# Altium schematic symbol library SGK_DVR_01_Library.SchLib: 230 symbols (part 1 of 3)
Pins are listed as number, name and electrical type; pins without a type are passive.

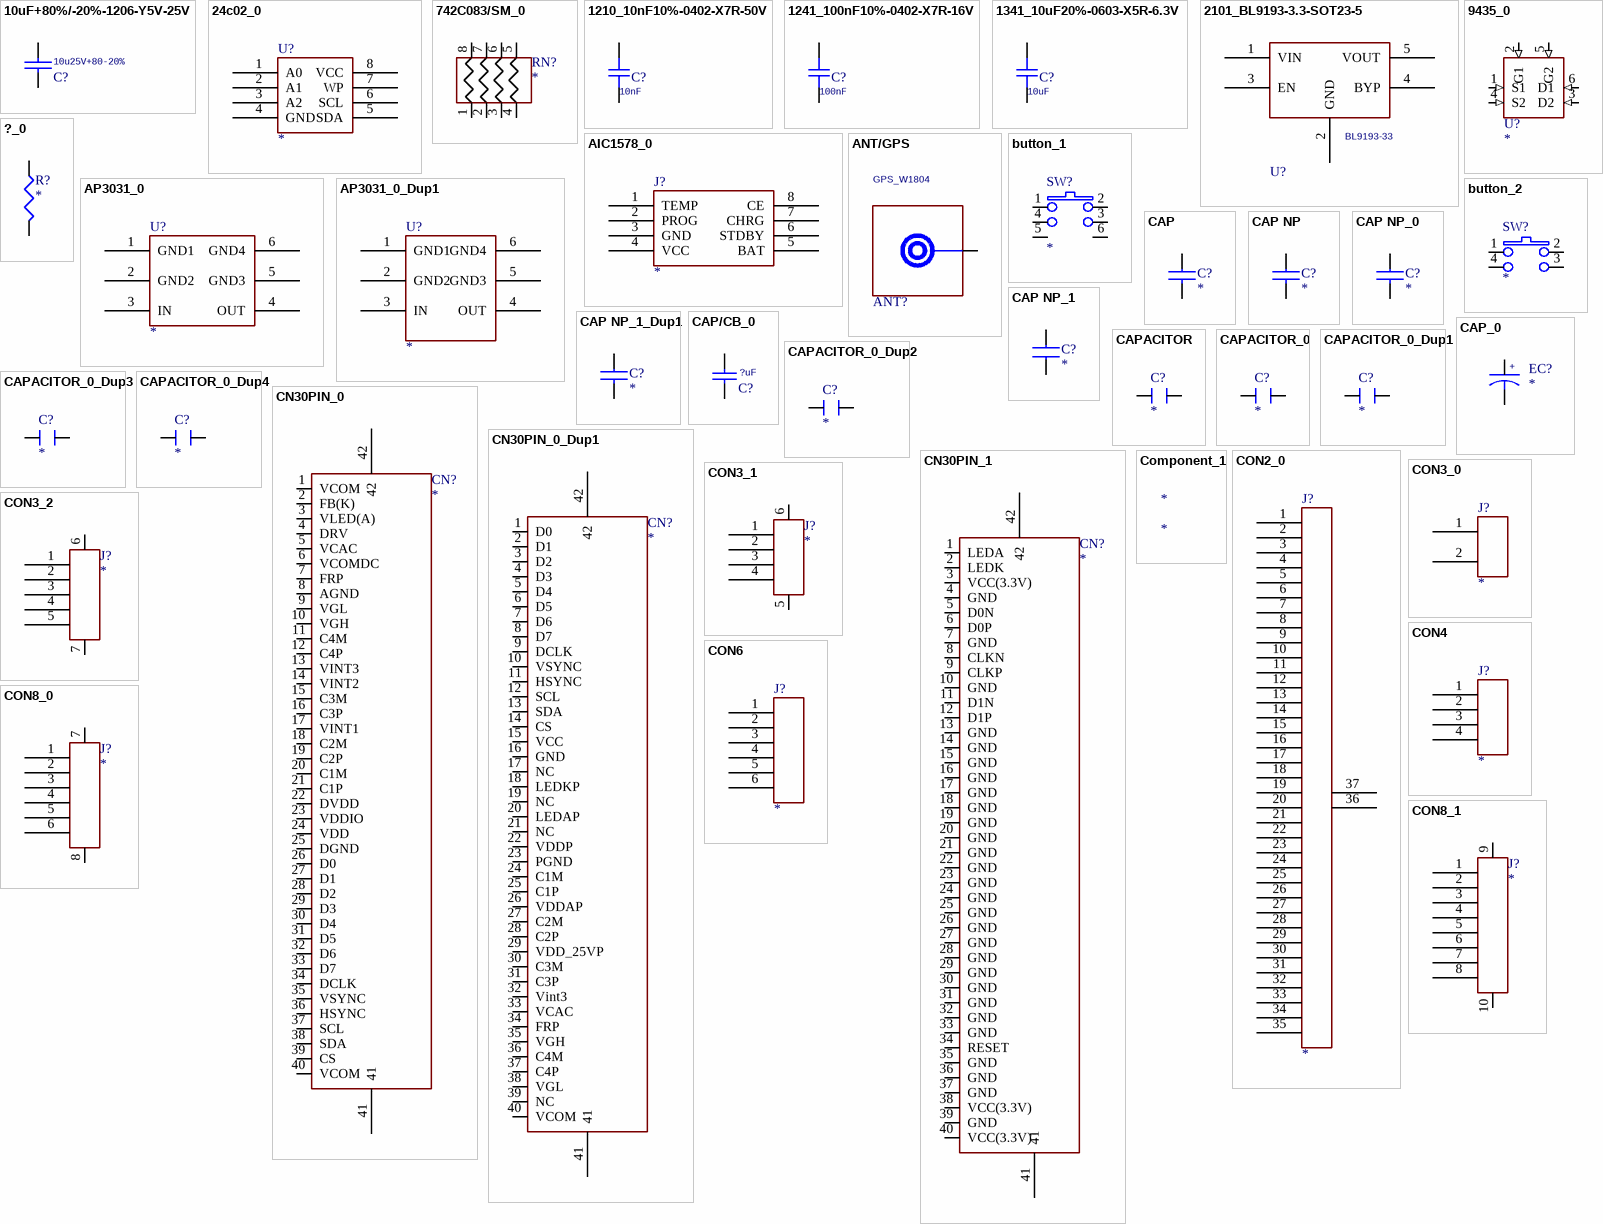
[diagram p0: symbols 10uF+80%/-20%-1206-Y5V-25V to CON8_1]

## 10uF+80%/-20%-1206-Y5V-25V
designator C?, comment 10u25V+80-20%
Part1: 电容-10uF+80%/-20%-1206-Y5V-25V; Part2: A.02.04.01.202
footprint 1206C
pins: 1, 2

## 24c02_0
designator U?
pins: 1 A0, 2 A1, 3 A2, 4 GND (power), 5 SDA, 6 SCL, 7 WP, 8 VCC (power)

## 742C083/SM_0
designator RN?
pins: 1, 2, 3, 4, 5, 6, 7, 8

## 1210_10nF10%-0402-X7R-50V
designator C?, comment 10nF
Part1: 电容-10nF±10%-0402-X7R-50V; Part2: A.01.02.01.210
footprint 0402C
pins: 1, 2

## 1241_100nF10%-0402-X7R-16V
designator C?, comment 100nF
Part1: 电容-100nF±10%-0402-X7R-16V; Part2: A.01.02.01.241
footprint 0402C
pins: 1, 2

## 1341_10uF20%-0603-X5R-6.3V
designator C?, comment 10uF
Part1: 电容-10uF±20%-0603-X5R-6.3V; Part2: A.01.02.01.341
footprint 0603C
pins: 1, 2

## 2101_BL9193-3.3-SOT23-5
designator U?, comment BL9193-33
Part1: 集成电路-BL9193-33-A-A-X-RN-3.3VLDO-200mA-(SOT23-5); Part2: A.01.08.02.101
footprint SOT23-5
pins: 1 VIN, 2 GND (power), 3 EN, 4 BYP, 5 VOUT

## 9435_0
designator U?
pins: 1 S1 (in), 2 G1 (in), 3 D2 (in), 4 S2 (in), 5 G2 (in), 6 D1 (in)

## ?_0
designator R?
footprint R0402
pins: 1, 2

## AIC1578_0
designator J?
pins: 1 TEMP, 2 PROG, 3 GND, 4 VCC, 5 BAT, 6 STDBY, 7 CHRG, 8 CE

## ANT/GPS
designator ANT?, comment GPS_W1804
footprint TP/SMD/D1.0
pins: 1

## AP3031_0
designator U?
pins: 1 GND1, 2 GND2, 3 IN, 4 OUT, 5 GND3, 6 GND4

## AP3031_0_Dup1
designator U?
pins: 1 GND1, 2 GND2, 3 IN, 4 OUT, 5 GND3, 6 GND4

## button_1
designator SW?
footprint button
pins: 1, 2, 3, 4, 5, 6

## button_2
designator SW?
footprint button
pins: 1, 2, 3, 4

## CAP
designator C?
pins: 1, 2

## CAP NP
designator C?
pins: 1, 2

## CAP NP_0
designator C?
pins: 1, 2

## CAP NP_1
designator C?
footprint C0603
pins: 1, 2

## CAP NP_1_Dup1
designator C?
pins: 1, 2

## CAP/CB_0
designator C?, comment ?uF
footprint C0402
pins: 1, 2

## CAP_0
designator EC?
pins: 1, 2
text: +

## CAPACITOR
designator C?
pins: 1, 2

## CAPACITOR_0
designator C?
pins: 1, 2

## CAPACITOR_0_Dup1
designator C?
pins: 1, 2

## CAPACITOR_0_Dup2
designator C?
pins: 1, 2

## CAPACITOR_0_Dup3
designator C?
pins: 1, 2

## CAPACITOR_0_Dup4
designator C?
pins: 1, 2

## CN30PIN_0
designator CN?
pins: 1 VCOM, 2 FB(K), 3 VLED(A), 4 DRV, 5 VCAC, 6 VCOMDC, 7 FRP, 8 AGND, 9 VGL, 10 VGH, 11 C4M, 12 C4P, 13 VINT3, 14 VINT2, 15 C3M, 16 C3P, 17 VINT1, 18 C2M, 19 C2P, 20 C1M, 21 C1P, 22 DVDD, 23 VDDIO, 24 VDD, 25 DGND, 26 D0, 27 D1, 28 D2, 29 D3, 30 D4, 31 D5, 32 D6, 33 D7, 34 DCLK, 35 VSYNC, 36 HSYNC, 37 SCL, 38 SDA, 39 CS, 40 VCOM, 41, 42

## CN30PIN_0_Dup1
designator CN?
pins: 1 D0, 2 D1, 3 D2, 4 D3, 5 D4, 6 D5, 7 D6, 8 D7, 9 DCLK, 10 VSYNC, 11 HSYNC, 12 SCL, 13 SDA, 14 CS, 15 VCC, 16 GND, 17 NC, 18 LEDKP, 19 NC, 20 LEDAP, 21 NC, 22 VDDP, 23 PGND, 24 C1M, 25 C1P, 26 VDDAP, 27 C2M, 28 C2P, 29 VDD_25VP, 30 C3M, 31 C3P, 32 Vint3, 33 VCAC, 34 FRP, 35 VGH, 36 C4M, 37 C4P, 38 VGL, 39 NC, 40 VCOM, 41, 42

## CN30PIN_1
designator CN?
pins: 1 LEDA, 2 LEDK, 3 VCC(3.3V), 4 GND, 5 D0N, 6 D0P, 7 GND, 8 CLKN, 9 CLKP, 10 GND, 11 D1N, 12 D1P, 13 GND, 14 GND, 15 GND, 16 GND, 17 GND, 18 GND, 19 GND, 20 GND, 21 GND, 22 GND, 23 GND, 24 GND, 25 GND, 26 GND, 27 GND, 28 GND, 29 GND, 30 GND, 31 GND, 32 GND, 33 GND, 34 RESET, 35 GND, 36 GND, 37 GND, 38 VCC(3.3V), 39 GND, 40 VCC(3.3V), 41, 42

## Component_1
designator *

## CON2_0
designator J?
pins: 1, 2, 3, 4, 5, 6, 7, 8, 9, 10, 11, 12, 13, 14, 15, 16, 17, 18, 19, 20, 21, 22, 23, 24, 25, 26, 27, 28, 29, 30, 31, 32, 33, 34, 35, 36, 37

## CON3_0
designator J?
pins: 1, 2

## CON3_1
designator J?
pins: 1, 2, 3, 4, 5, 6

## CON3_2
designator J?
pins: 1, 2, 3, 4, 5, 6, 7

## CON4
designator J?
pins: 1, 2, 3, 4

## CON6
designator J?
pins: 1, 2, 3, 4, 5, 6

## CON8_0
designator J?
pins: 1, 2, 3, 4, 5, 6, 7, 8

## CON8_1
designator J?
pins: 1, 2, 3, 4, 5, 6, 7, 8, 9, 10

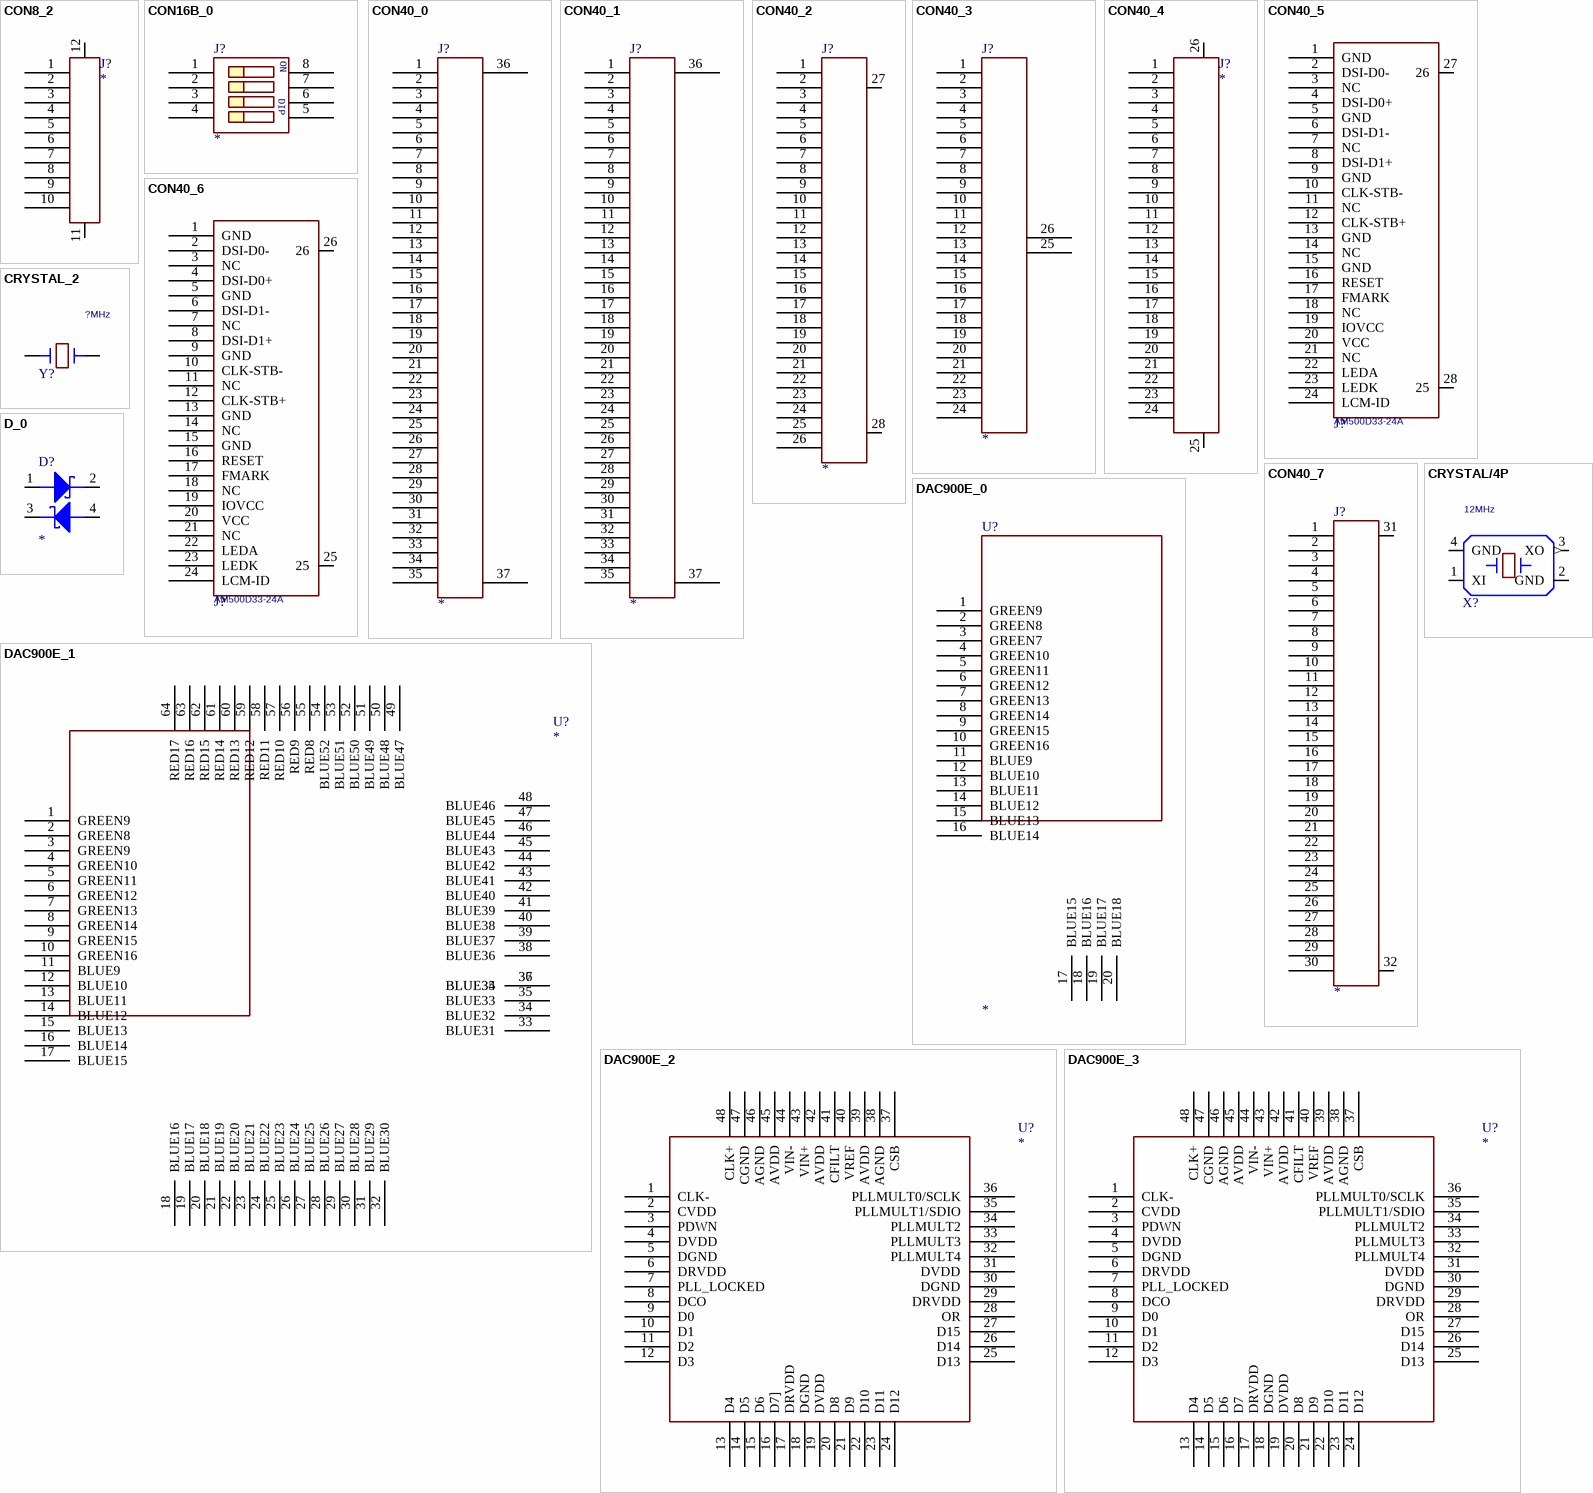
[diagram p1: symbols CON8_2 to DAC900E_3]

## CON8_2
designator J?
pins: 1, 2, 3, 4, 5, 6, 7, 8, 9, 10, 11, 12

## CON16B_0
designator J?
pins: 1, 2, 3, 4, 5, 6, 7, 8
text: ON; DIP

## CON40_0
designator J?
pins: 1, 2, 3, 4, 5, 6, 7, 8, 9, 10, 11, 12, 13, 14, 15, 16, 17, 18, 19, 20, 21, 22, 23, 24, 25, 26, 27, 28, 29, 30, 31, 32, 33, 34, 35, 36, 37

## CON40_1
designator J?
pins: 1, 2, 3, 4, 5, 6, 7, 8, 9, 10, 11, 12, 13, 14, 15, 16, 17, 18, 19, 20, 21, 22, 23, 24, 25, 26, 27, 28, 29, 30, 31, 32, 33, 34, 35, 36, 37

## CON40_2
designator J?
pins: 1, 2, 3, 4, 5, 6, 7, 8, 9, 10, 11, 12, 13, 14, 15, 16, 17, 18, 19, 20, 21, 22, 23, 24, 25, 26, 27, 28

## CON40_3
designator J?
pins: 1, 2, 3, 4, 5, 6, 7, 8, 9, 10, 11, 12, 13, 14, 15, 16, 17, 18, 19, 20, 21, 22, 23, 24, 25, 26

## CON40_4
designator J?
pins: 1, 2, 3, 4, 5, 6, 7, 8, 9, 10, 11, 12, 13, 14, 15, 16, 17, 18, 19, 20, 21, 22, 23, 24, 25, 26

## CON40_5
designator J?, comment AM500D33-24A
pins: 1 GND, 2 DSI-D0-, 3 NC, 4 DSI-D0+, 5 GND, 6 DSI-D1-, 7 NC, 8 DSI-D1+, 9 GND, 10 CLK-STB-, 11 NC, 12 CLK-STB+, 13 GND, 14 NC, 15 GND, 16 RESET, 17 FMARK, 18 NC, 19 IOVCC, 20 VCC, 21 NC, 22 LEDA, 23 LEDK, 24 LCM-ID, 27 26, 28 25

## CON40_6
designator J?, comment AM500D33-24A
pins: 1 GND, 2 DSI-D0-, 3 NC, 4 DSI-D0+, 5 GND, 6 DSI-D1-, 7 NC, 8 DSI-D1+, 9 GND, 10 CLK-STB-, 11 NC, 12 CLK-STB+, 13 GND, 14 NC, 15 GND, 16 RESET, 17 FMARK, 18 NC, 19 IOVCC, 20 VCC, 21 NC, 22 LEDA, 23 LEDK, 24 LCM-ID, 25, 26

## CON40_7
designator J?
pins: 1, 2, 3, 4, 5, 6, 7, 8, 9, 10, 11, 12, 13, 14, 15, 16, 17, 18, 19, 20, 21, 22, 23, 24, 25, 26, 27, 28, 29, 30, 31, 32

## CRYSTAL/4P
designator X?, comment 12MHz
footprint OSC4_SMD_50X32
pins: 1 XI, 2 GND, 3 XO (out), 4 GND

## CRYSTAL_2
designator Y?, comment ?MHz
footprint SMD/CRY
pins: 1, 2

## D_0
designator D?
pins: 1, 2, 3, 4

## DAC900E_0
designator U?
pins: 1 GREEN9, 2 GREEN8, 3 GREEN7, 4 GREEN10, 5 GREEN11, 6 GREEN12, 7 GREEN13, 8 GREEN14, 9 GREEN15, 10 GREEN16, 11 BLUE9, 12 BLUE10, 13 BLUE11, 14 BLUE12, 15 BLUE13, 16 BLUE14, 17 BLUE15, 18 BLUE16, 19 BLUE17, 20 BLUE18

## DAC900E_1
designator U?
pins: 1 GREEN9, 2 GREEN8, 3 GREEN9, 4 GREEN10, 5 GREEN11, 6 GREEN12, 7 GREEN13, 8 GREEN14, 9 GREEN15, 10 GREEN16, 11 BLUE9, 12 BLUE10, 13 BLUE11, 14 BLUE12, 15 BLUE13, 16 BLUE14, 17 BLUE15, 18 BLUE16, 19 BLUE17, 20 BLUE18, 21 BLUE19, 22 BLUE20, 23 BLUE21, 24 BLUE22, 25 BLUE23, 26 BLUE24, 27 BLUE25, 28 BLUE26, 29 BLUE27, 30 BLUE28, 31 BLUE29, 32 BLUE30, 33 BLUE31, 34 BLUE32, 35 BLUE33, 36 BLUE34, 37 BLUE35, 38 BLUE36, 39 BLUE37, 40 BLUE38, 41 BLUE39, 42 BLUE40, 43 BLUE41, 44 BLUE42, 45 BLUE43, 46 BLUE44, 47 BLUE45, 48 BLUE46, 49 BLUE47, 50 BLUE48, 51 BLUE49, 52 BLUE50, 53 BLUE51, 54 BLUE52, 55 RED8, 56 RED9, 57 RED10, 58 RED11, 59 RED12, 60 RED13, 61 RED14, 62 RED15, 63 RED16, 64 RED17

## DAC900E_2
designator U?
pins: 1 CLK-, 2 CVDD, 3 PDWN, 4 DVDD, 5 DGND, 6 DRVDD, 7 PLL_LOCKED, 8 DCO, 9 D0, 10 D1, 11 D2, 12 D3, 13 D4, 14 D5, 15 D6, 16 D7], 17 DRVDD, 18 DGND, 19 DVDD, 20 D8 (power), 21 D9, 22 D10, 23 D11, 24 D12, 25 D13, 26 D14 (power), 27 D15, 28 OR, 29 DRVDD, 30 DGND, 31 DVDD, 32 PLLMULT4, 33 PLLMULT3, 34 PLLMULT2, 35 PLLMULT1/SDIO, 36 PLLMULT0/SCLK, 37 CSB, 38 AGND, 39 AVDD, 40 VREF, 41 CFILT, 42 AVDD, 43 VIN+, 44 VIN-, 45 AVDD, 46 AGND, 47 CGND, 48 CLK+

## DAC900E_3
designator U?
pins: 1 CLK-, 2 CVDD, 3 PDWN, 4 DVDD, 5 DGND, 6 DRVDD, 7 PLL_LOCKED, 8 DCO, 9 D0, 10 D1, 11 D2, 12 D3, 13 D4, 14 D5, 15 D6, 16 D7, 17 DRVDD, 18 DGND, 19 DVDD, 20 D8 (power), 21 D9, 22 D10, 23 D11, 24 D12, 25 D13, 26 D14 (power), 27 D15, 28 OR, 29 DRVDD, 30 DGND, 31 DVDD, 32 PLLMULT4, 33 PLLMULT3, 34 PLLMULT2, 35 PLLMULT1/SDIO, 36 PLLMULT0/SCLK, 37 CSB, 38 AGND, 39 AVDD, 40 VREF, 41 CFILT, 42 AVDD, 43 VIN+, 44 VIN-, 45 AVDD, 46 AGND, 47 CGND, 48 CLK+

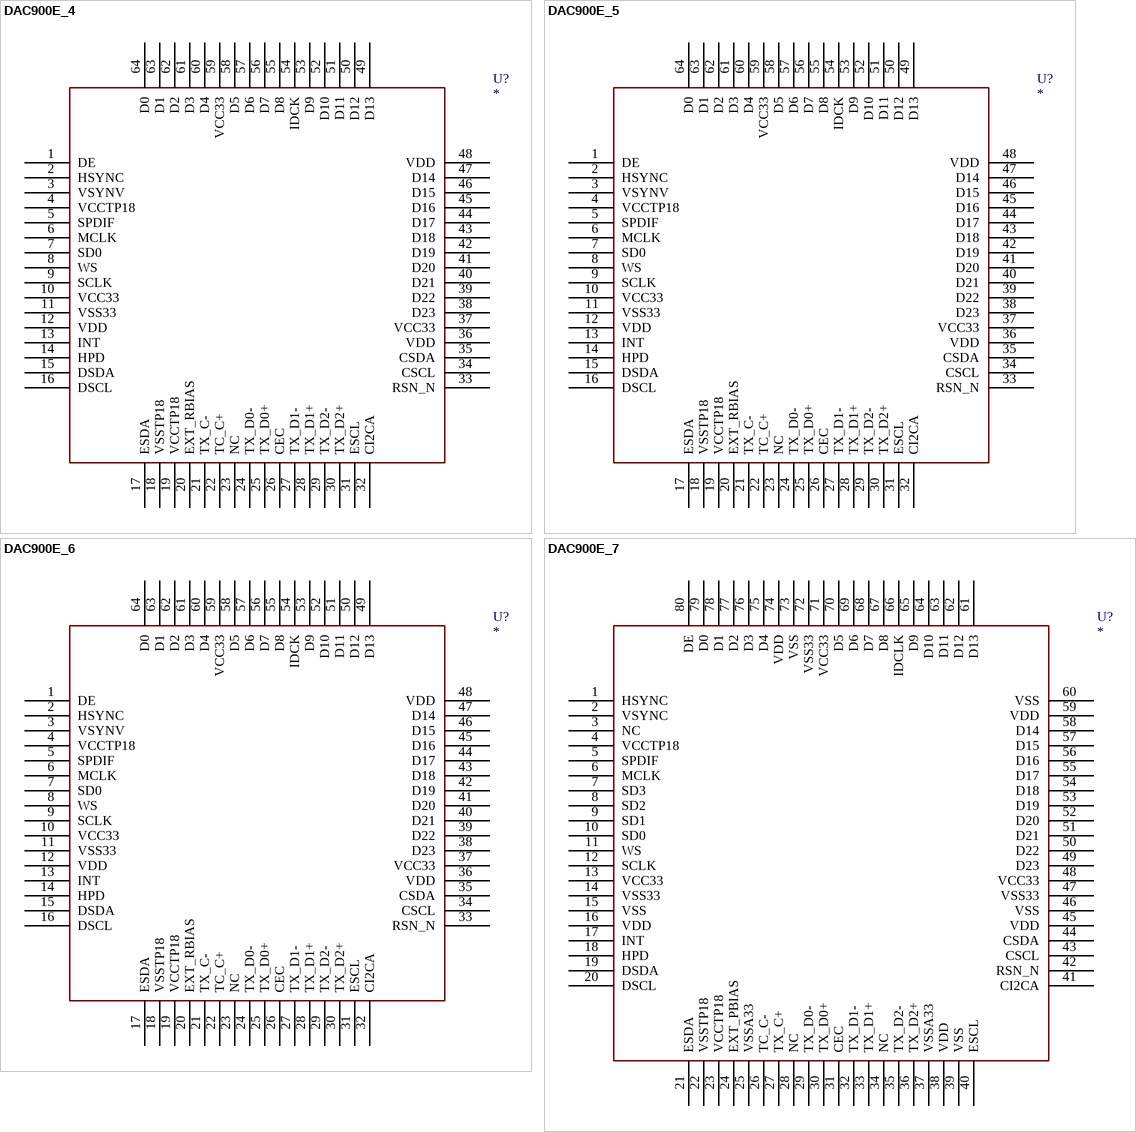
[diagram p2: symbols DAC900E_4 to DAC900E_7]

## DAC900E_4
designator U?
pins: 1 DE, 2 HSYNC, 3 VSYNV, 4 VCCTP18, 5 SPDIF, 6 MCLK, 7 SD0, 8 WS, 9 SCLK, 10 VCC33, 11 VSS33, 12 VDD, 13 INT, 14 HPD, 15 DSDA, 16 DSCL, 17 ESDA, 18 VSSTP18, 19 VCCTP18, 20 EXT_RBIAS (power), 21 TX_C-, 22 TC_C+, 23 NC, 24 TX_D0-, 25 TX_D0+, 26 CEC (power), 27 TX_D1-, 28 TX_D1+, 29 TX_D2-, 30 TX_D2+, 31 ESCL, 32 CI2CA, 33 RSN_N, 34 CSCL, 35 CSDA, 36 VDD, 37 VCC33, 38 D23, 39 D22, 40 D21, 41 D20, 42 D19, 43 D18, 44 D17, 45 D16, 46 D15, 47 D14, 48 VDD, 49 D13, 50 D12, 51 D11, 52 D10, 53 D9, 54 IDCK, 55 D8, 56 D7, 57 D6, 58 D5, 59 VCC33, 60 D4, 61 D3, 62 D2, 63 D1, 64 D0

## DAC900E_5
designator U?
pins: 1 DE, 2 HSYNC, 3 VSYNV, 4 VCCTP18, 5 SPDIF, 6 MCLK, 7 SD0, 8 WS, 9 SCLK, 10 VCC33, 11 VSS33, 12 VDD, 13 INT, 14 HPD, 15 DSDA, 16 DSCL, 17 ESDA, 18 VSSTP18, 19 VCCTP18, 20 EXT_RBIAS, 21 TX_C-, 22 TC_C+, 23 NC, 24 TX_D0-, 25 TX_D0+, 26 CEC (power), 27 TX_D1-, 28 TX_D1+, 29 TX_D2-, 30 TX_D2+, 31 ESCL, 32 CI2CA, 33 RSN_N, 34 CSCL, 35 CSDA, 36 VDD, 37 VCC33, 38 D23, 39 D22, 40 D21, 41 D20, 42 D19, 43 D18, 44 D17, 45 D16, 46 D15, 47 D14, 48 VDD, 49 D13, 50 D12, 51 D11, 52 D10, 53 D9, 54 IDCK, 55 D8, 56 D7, 57 D6, 58 D5, 59 VCC33, 60 D4, 61 D3, 62 D2, 63 D1, 64 D0

## DAC900E_6
designator U?
pins: 1 DE, 2 HSYNC, 3 VSYNV, 4 VCCTP18, 5 SPDIF, 6 MCLK, 7 SD0, 8 WS, 9 SCLK, 10 VCC33, 11 VSS33, 12 VDD, 13 INT, 14 HPD, 15 DSDA, 16 DSCL, 17 ESDA, 18 VSSTP18, 19 VCCTP18, 20 EXT_RBIAS, 21 TX_C-, 22 TC_C+, 23 NC, 24 TX_D0-, 25 TX_D0+, 26 CEC (power), 27 TX_D1-, 28 TX_D1+, 29 TX_D2-, 30 TX_D2+, 31 ESCL, 32 CI2CA, 33 RSN_N, 34 CSCL, 35 CSDA, 36 VDD, 37 VCC33, 38 D23, 39 D22, 40 D21, 41 D20, 42 D19, 43 D18, 44 D17, 45 D16, 46 D15, 47 D14, 48 VDD, 49 D13, 50 D12, 51 D11, 52 D10, 53 D9, 54 IDCK, 55 D8, 56 D7, 57 D6, 58 D5, 59 VCC33, 60 D4, 61 D3, 62 D2, 63 D1, 64 D0

## DAC900E_7
designator U?
pins: 1 HSYNC, 2 VSYNC, 3 NC, 4 VCCTP18, 5 SPDIF, 6 MCLK, 7 SD3, 8 SD2, 9 SD1, 10 SD0, 11 WS, 12 SCLK, 13 VCC33, 14 VSS33, 15 VSS, 16 VDD, 17 INT, 18 HPD, 19 DSDA, 20 DSCL, 21 ESDA, 22 VSSTP18, 23 VCCTP18, 24 EXT_PBIAS, 25 VSSA33, 26 TC_C- (power), 27 TX_C+, 28 NC, 29 TX_D0-, 30 TX_D0+, 31 CEC, 32 TX_D1-, 33 TX_D1+, 34 NC, 35 TX_D2-, 36 TX_D2+, 37 VSSA33, 38 VDD, 39 VSS, 40 ESCL, 41 CI2CA, 42 RSN_N, 43 CSCL, 44 CSDA, 45 VDD, 46 VSS, 47 VSS33, 48 VCC33, 49 D23, 50 D22, 51 D21, 52 D20, 53 D19, 54 D18, 55 D17, 56 D16, 57 D15, 58 D14, 59 VDD, 60 VSS, 61 D13, 62 D12, 63 D11, 64 D10, 65 D9, 66 IDCLK, 67 D8, 68 D7, 69 D6, 70 D5, 71 VCC33, 72 VSS33, 73 VSS, 74 VDD, 75 D4, 76 D3, 77 D2, 78 D1, 79 D0, 80 DE

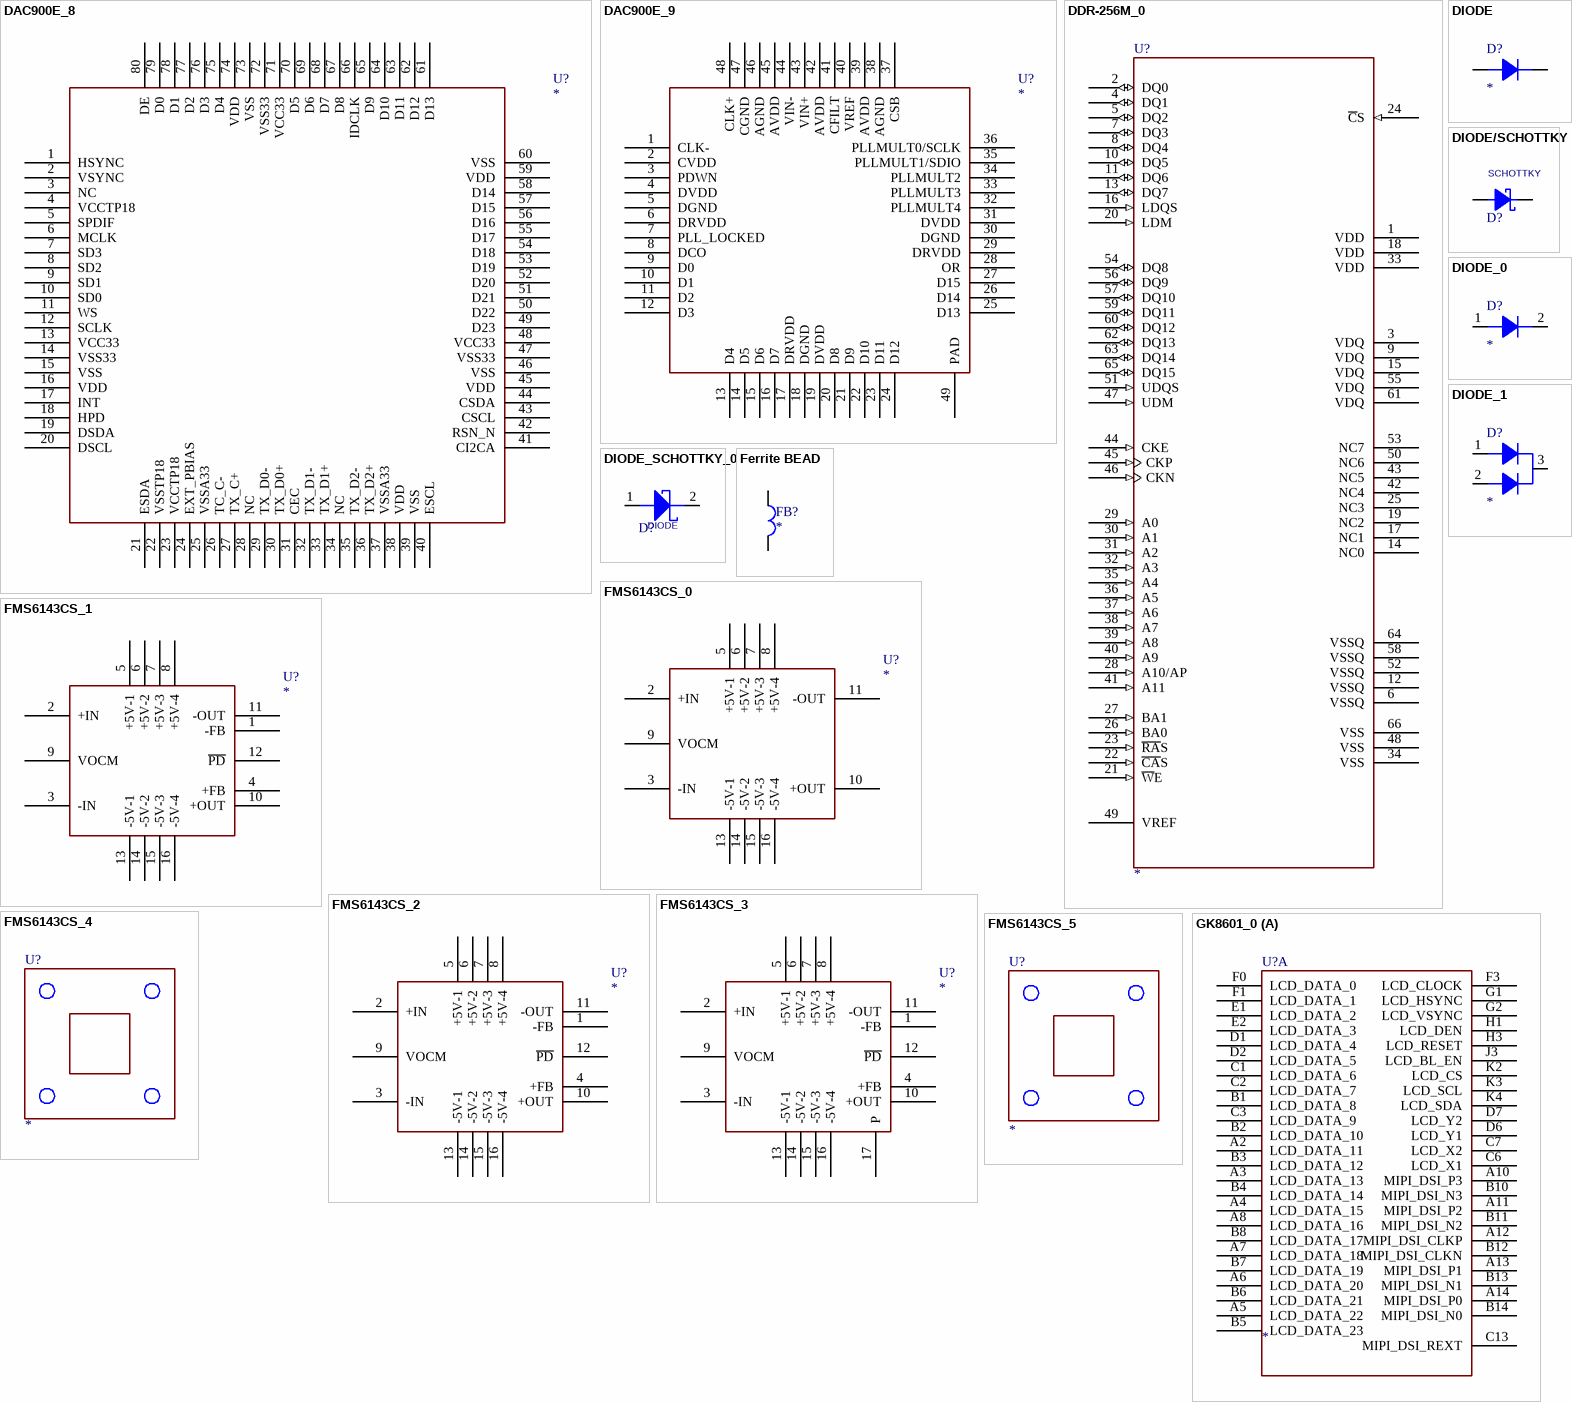
[diagram p3: symbols DAC900E_8 to GK8601_0]

## DAC900E_8
designator U?
pins: 1 HSYNC, 2 VSYNC, 3 NC, 4 VCCTP18, 5 SPDIF, 6 MCLK, 7 SD3, 8 SD2, 9 SD1, 10 SD0, 11 WS, 12 SCLK, 13 VCC33, 14 VSS33, 15 VSS, 16 VDD, 17 INT, 18 HPD, 19 DSDA, 20 DSCL, 21 ESDA, 22 VSSTP18, 23 VCCTP18, 24 EXT_PBIAS, 25 VSSA33, 26 TC_C- (power), 27 TX_C+, 28 NC, 29 TX_D0-, 30 TX_D0+, 31 CEC, 32 TX_D1-, 33 TX_D1+, 34 NC, 35 TX_D2-, 36 TX_D2+, 37 VSSA33, 38 VDD, 39 VSS, 40 ESCL, 41 CI2CA, 42 RSN_N, 43 CSCL, 44 CSDA, 45 VDD, 46 VSS, 47 VSS33, 48 VCC33, 49 D23, 50 D22, 51 D21, 52 D20, 53 D19, 54 D18, 55 D17, 56 D16, 57 D15, 58 D14, 59 VDD, 60 VSS, 61 D13, 62 D12, 63 D11, 64 D10, 65 D9, 66 IDCLK, 67 D8, 68 D7, 69 D6, 70 D5, 71 VCC33, 72 VSS33, 73 VSS, 74 VDD, 75 D4, 76 D3, 77 D2, 78 D1, 79 D0, 80 DE

## DAC900E_9
designator U?
pins: 1 CLK-, 2 CVDD, 3 PDWN, 4 DVDD, 5 DGND, 6 DRVDD, 7 PLL_LOCKED, 8 DCO, 9 D0, 10 D1, 11 D2, 12 D3, 13 D4, 14 D5, 15 D6, 16 D7, 17 DRVDD, 18 DGND, 19 DVDD, 20 D8 (power), 21 D9, 22 D10, 23 D11, 24 D12, 25 D13, 26 D14 (power), 27 D15, 28 OR, 29 DRVDD, 30 DGND, 31 DVDD, 32 PLLMULT4, 33 PLLMULT3, 34 PLLMULT2, 35 PLLMULT1/SDIO, 36 PLLMULT0/SCLK, 37 CSB, 38 AGND, 39 AVDD, 40 VREF, 41 CFILT, 42 AVDD, 43 VIN+, 44 VIN-, 45 AVDD, 46 AGND, 47 CGND, 48 CLK+, 49 PAD

## DDR-256M_0
designator U?
pins: 1 VDD (power), 2 DQ0 (io), 3 VDQ (power), 4 DQ1 (io), 5 DQ2 (io), 6 VSSQ (power), 7 DQ3 (io), 8 DQ4 (io), 9 VDQ (power), 10 DQ5 (io), 11 DQ6 (io), 12 VSSQ (power), 13 DQ7 (io), 14 NC0, 15 VDQ (power), 16 LDQS (in), 17 NC1, 18 VDD (power), 19 NC2, 20 LDM (in), 21 ~{W}E (in), 22 ~{CA}S (in), 23 ~{RA}S (in), 24 ~{C}S (in), 25 NC3, 26 BA0 (in), 27 BA1 (in), 28 A10/AP (in), 29 A0 (in), 30 A1 (in), 31 A2 (in), 32 A3 (in), 33 VDD (power), 34 VSS (power), 35 A4 (in), 36 A5 (in), 37 A6 (in), 38 A7 (in), 39 A8 (in), 40 A9 (in), 41 A11 (in), 42 NC4, 43 NC5, 44 CKE (in), 45 CKP (in), 46 CKN (in), 47 UDM (in), 48 VSS (power), 49 VREF (power), 50 NC6, 51 UDQS (in), 52 VSSQ (power), 53 NC7, 54 DQ8 (io), 55 VDQ (power), 56 DQ9 (io), 57 DQ10 (io), 58 VSSQ (power), 59 DQ11 (io), 60 DQ12 (io), 61 VDQ (power), 62 DQ13 (io), 63 DQ14 (io), 64 VSSQ (power), 65 DQ15 (io), 66 VSS (power)

## DIODE
designator D?
pins: 1 A, 2 K

## DIODE/SCHOTTKY
designator D?, comment SCHOTTKY
footprint SMD/1210D
pins: 1 ANODE, 2 CATHODE

## DIODE_0
designator D?
pins: 1 A, 2 K

## DIODE_1
designator D?
pins: 1 A1, 2 A2, 3 K

## DIODE_SCHOTTKY_0
designator D?, comment DIODE
footprint SOD123
pins: 1, 2

## Ferrite BEAD
designator FB?
footprint 0805
pins: 1, 2

## FMS6143CS_0
designator U?
footprint SOIC8_1R27_4R9X6
pins: 2 +IN, 3 -IN, 5 +5V-1, 6 +5V-2, 7 +5V-3, 8 +5V-4, 9 VOCM, 10 +OUT, 11 -OUT, 13 -5V-1, 14 -5V-2, 15 -5V-3, 16 -5V-4

## FMS6143CS_1
designator U?
footprint SOIC8_1R27_4R9X6
pins: 1 -FB, 2 +IN, 3 -IN, 4 +FB, 5 +5V-1, 6 +5V-2, 7 +5V-3, 8 +5V-4, 9 VOCM, 10 +OUT, 11 -OUT, 12 ~{PD}, 13 -5V-1, 14 -5V-2, 15 -5V-3, 16 -5V-4

## FMS6143CS_2
designator U?
footprint SOIC8_1R27_4R9X6
pins: 1 -FB, 2 +IN, 3 -IN, 4 +FB, 5 +5V-1, 6 +5V-2, 7 +5V-3, 8 +5V-4, 9 VOCM, 10 +OUT, 11 -OUT, 12 ~{PD}, 13 -5V-1, 14 -5V-2, 15 -5V-3, 16 -5V-4

## FMS6143CS_3
designator U?
footprint SOIC8_1R27_4R9X6
pins: 1 -FB, 2 +IN, 3 -IN, 4 +FB, 5 +5V-1, 6 +5V-2, 7 +5V-3, 8 +5V-4, 9 VOCM, 10 +OUT, 11 -OUT, 12 ~{PD}, 13 -5V-1, 14 -5V-2, 15 -5V-3, 16 -5V-4, 17 P

## FMS6143CS_4
designator U?
footprint SOIC8_1R27_4R9X6

## FMS6143CS_5
designator U?
footprint SOIC8_1R27_4R9X6
pins: 1

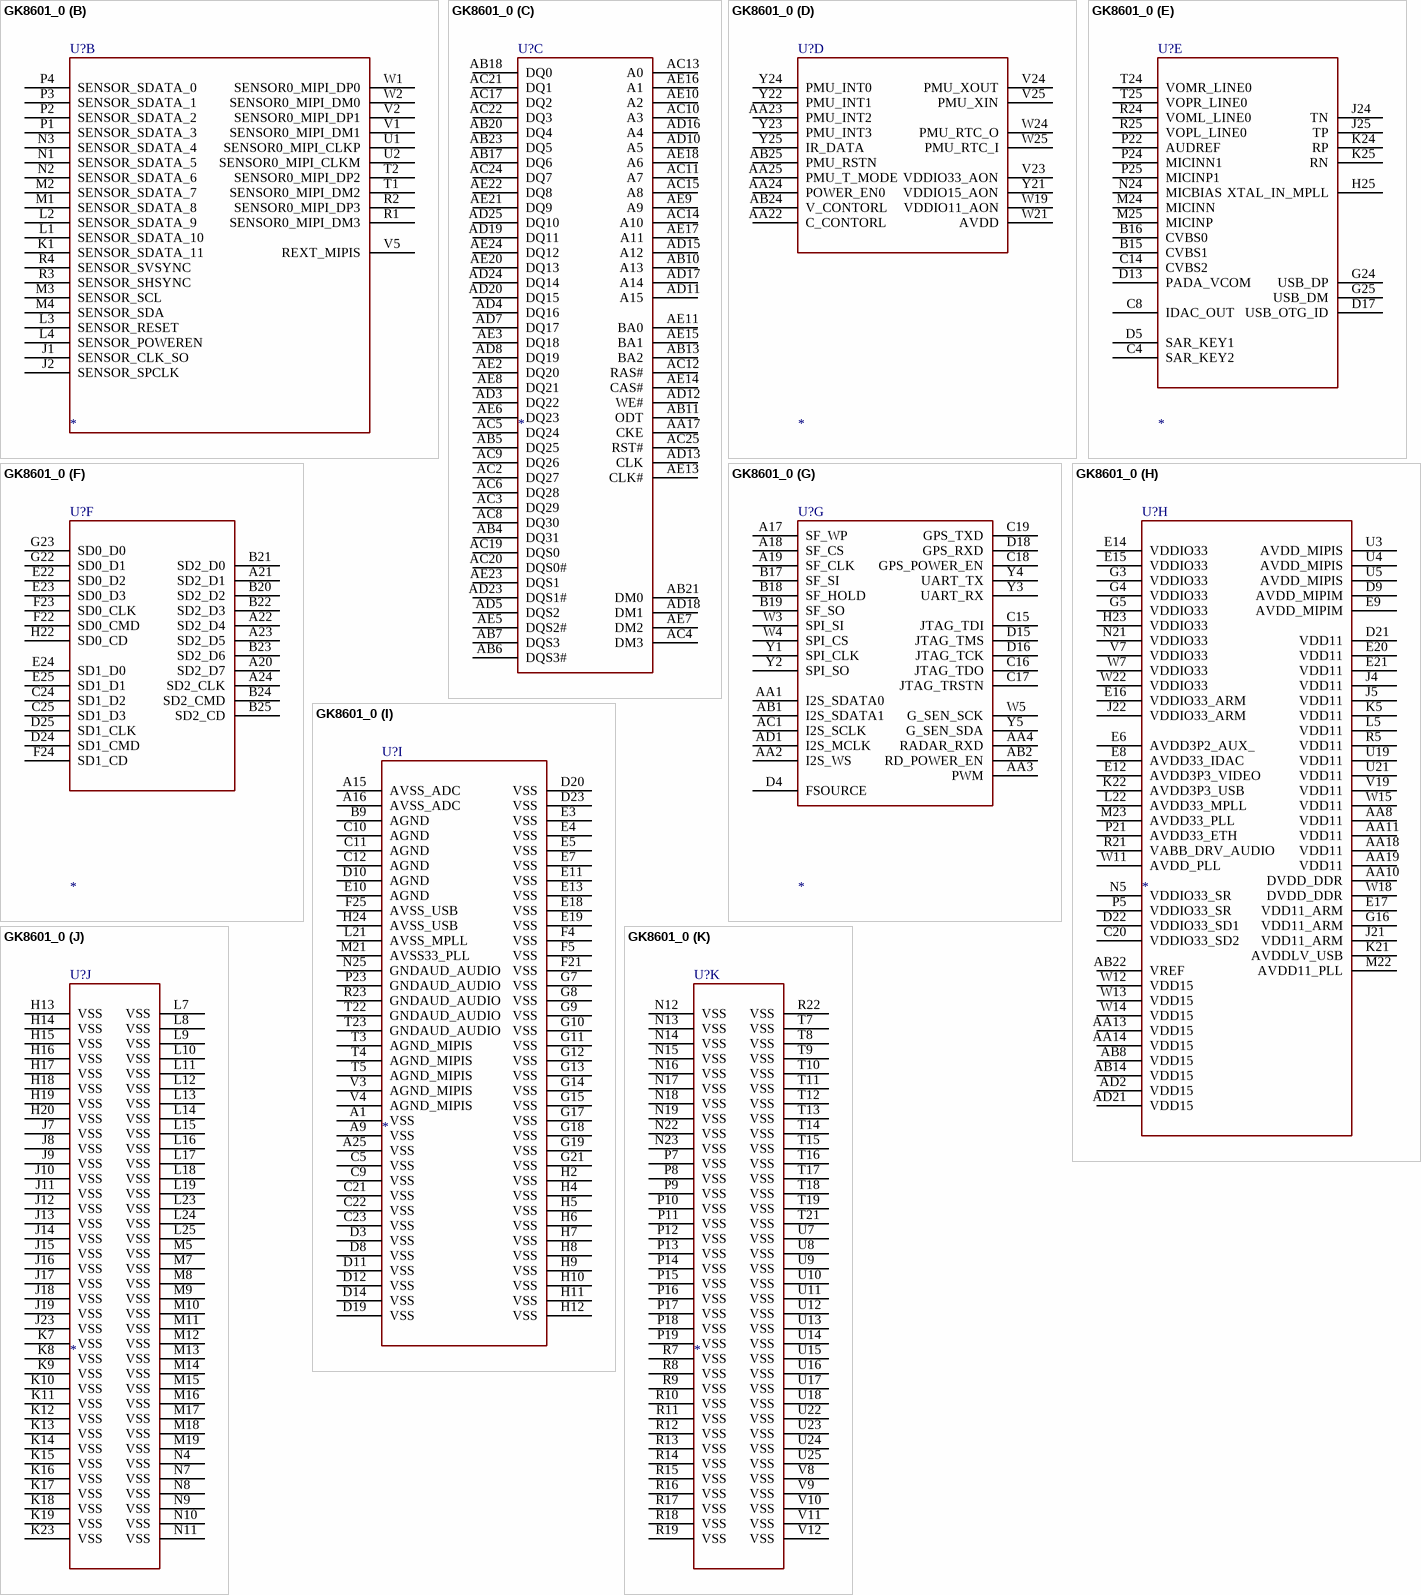
[diagram p4: symbol GK8601_0]

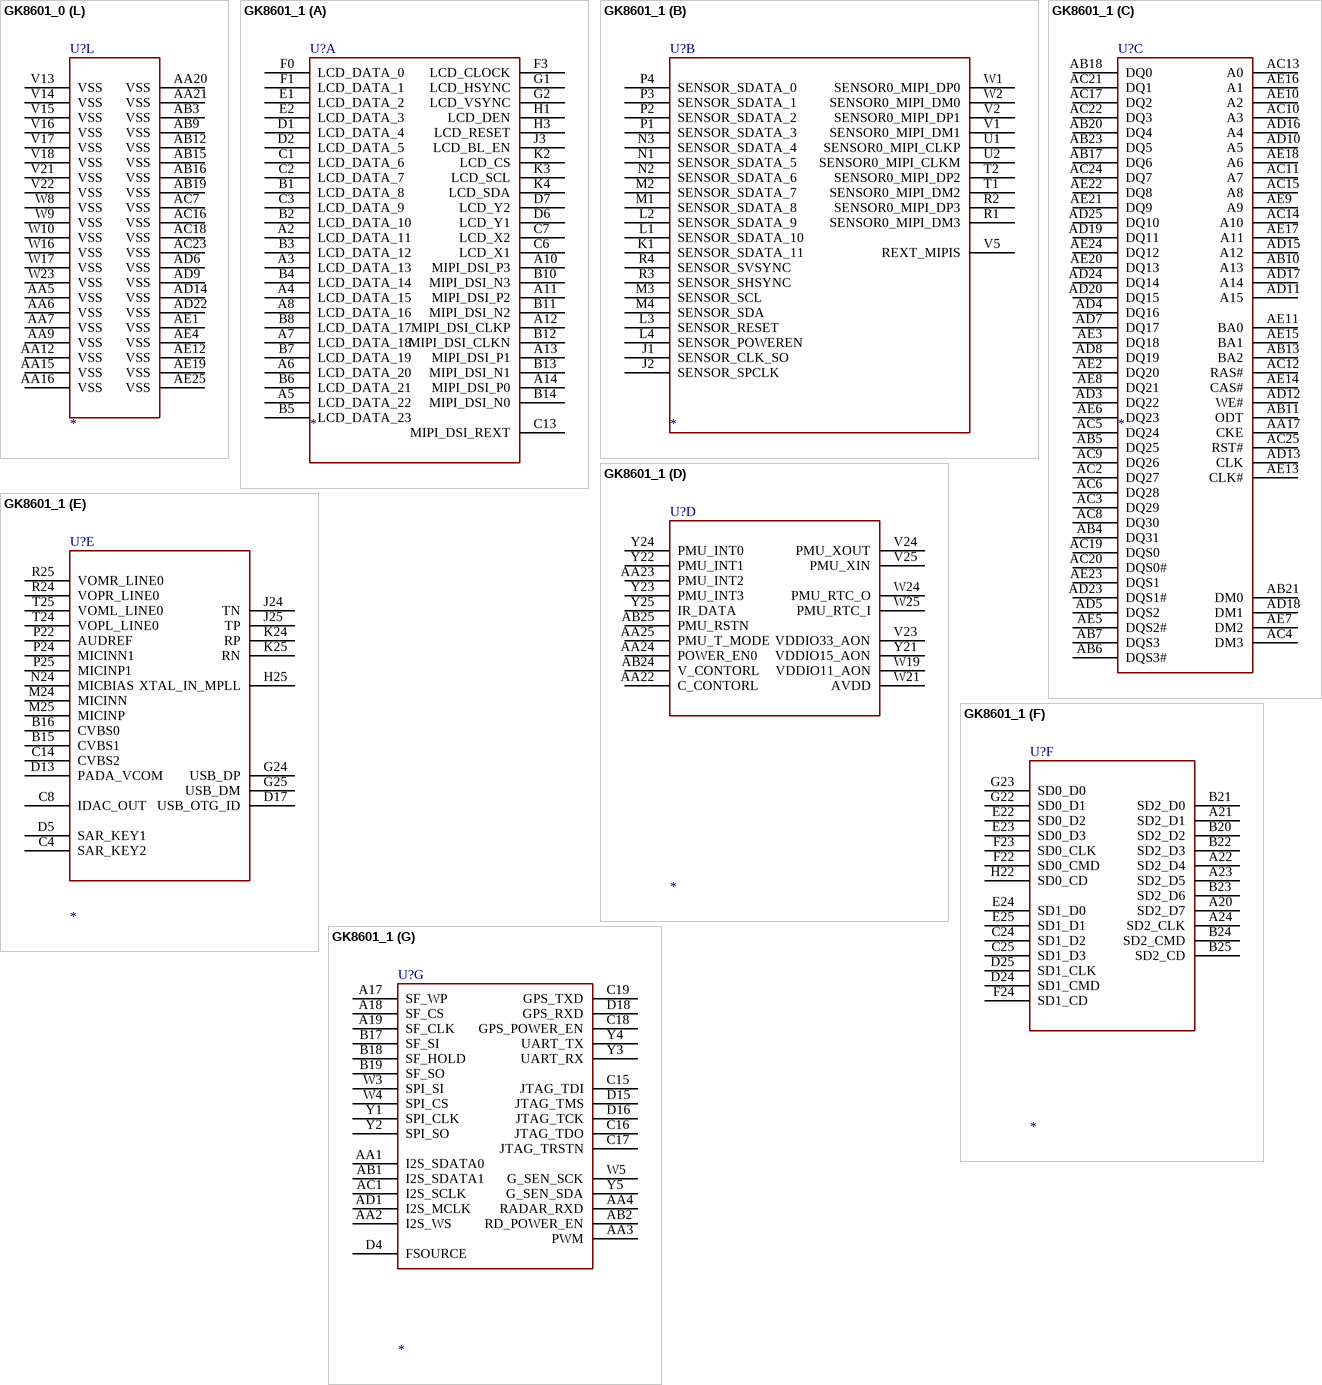
[diagram p5: symbols GK8601_0 to GK8601_1]

## GK8601_0
designator U?
part A pins: A2 LCD_DATA_11, A3 LCD_DATA_13, A4 LCD_DATA_15, A5 LCD_DATA_22, A6 LCD_DATA_20, A7 LCD_DATA_18, A8 LCD_DATA_16, A10 MIPI_DSI_P3, A11 MIPI_DSI_P2, A12 MIPI_DSI_CLKP, A13 MIPI_DSI_P1, A14 MIPI_DSI_P0, B1 LCD_DATA_8, B2 LCD_DATA_10, B3 LCD_DATA_12, B4 LCD_DATA_14, B5 LCD_DATA_23, B6 LCD_DATA_21, B7 LCD_DATA_19, B8 LCD_DATA_17, B10 MIPI_DSI_N3, B11 MIPI_DSI_N2, B12 MIPI_DSI_CLKN, B13 MIPI_DSI_N1, B14 MIPI_DSI_N0, C1 LCD_DATA_6, C2 LCD_DATA_7, C3 LCD_DATA_9, C6 LCD_X1, C7 LCD_X2, C13 MIPI_DSI_REXT, D1 LCD_DATA_4, D2 LCD_DATA_5, D6 LCD_Y1, D7 LCD_Y2, E1 LCD_DATA_2, E2 LCD_DATA_3, F0 LCD_DATA_0, F1 LCD_DATA_1, F3 LCD_CLOCK, G1 LCD_HSYNC, G2 LCD_VSYNC, H1 LCD_DEN, H3 LCD_RESET, J3 LCD_BL_EN, K2 LCD_CS, K3 LCD_SCL, K4 LCD_SDA
part B pins: J1 SENSOR_CLK_SO, J2 SENSOR_SPCLK, K1 SENSOR_SDATA_11, L1 SENSOR_SDATA_10, L2 SENSOR_SDATA_9, L3 SENSOR_RESET, L4 SENSOR_POWEREN, M1 SENSOR_SDATA_8, M2 SENSOR_SDATA_7, M3 SENSOR_SCL, M4 SENSOR_SDA, N1 SENSOR_SDATA_5, N2 SENSOR_SDATA_6, N3 SENSOR_SDATA_4, P1 SENSOR_SDATA_3, P2 SENSOR_SDATA_2, P3 SENSOR_SDATA_1, P4 SENSOR_SDATA_0, R1 SENSOR0_MIPI_DM3, R2 SENSOR0_MIPI_DP3, R3 SENSOR_SHSYNC, R4 SENSOR_SVSYNC, T1 SENSOR0_MIPI_DM2, T2 SENSOR0_MIPI_DP2, U1 SENSOR0_MIPI_CLKP, U2 SENSOR0_MIPI_CLKM, V1 SENSOR0_MIPI_DM1, V2 SENSOR0_MIPI_DP1, V5 REXT_MIPIS, W1 SENSOR0_MIPI_DP0, W2 SENSOR0_MIPI_DM0
part C pins: AA17 CKE, AB4 DQ31, AB5 DQ25, AB6 DQS3#, AB7 DQS3, AB10 A13, AB11 ODT, AB13 BA2, AB17 DQ6, AB18 DQ0, AB20 DQ4, AB21 DM0, AB23 DQ5, AC2 DQ27, AC3 DQ29, AC4 DM3, AC5 DQ24, AC6 DQ28, AC8 DQ30, AC9 DQ26, AC10 A3, AC11 A7, AC12 RAS#, AC13 A0, AC14 A10, AC15 A8, AC17 DQ2, AC19 DQS0, AC20 DQS0#, AC21 DQ1, AC22 DQ3, AC24 DQ7, AC25 RST#, AD3 DQ22, AD4 DQ16, AD5 DQS2, AD7 DQ17, AD8 DQ19, AD10 A5, AD11 A15, AD12 WE#, AD13 CLK, AD15 A12, AD16 A4, AD17 A14, AD18 DM1, AD19 DQ11, AD20 DQ15, AD23 DQS1#, AD24 DQ14, AD25 DQ10, AE2 DQ20, AE3 DQ18, AE5 DQS2#, AE6 DQ23, AE7 DM2, AE8 DQ21, AE9 A9, AE10 A2, AE11 BA0, AE13 CLK#, AE14 CAS#, AE15 BA1, AE16 A1, AE17 A11, AE18 A6, AE20 DQ13, AE21 DQ9, AE22 DQ8, AE23 DQS1, AE24 DQ12
part D pins: AA22 C_CONTORL, AA23 PMU_INT2, AA24 POWER_EN0, AA25 PMU_T_MODE, AB24 V_CONTORL, AB25 PMU_RSTN, V23 VDDIO33_AON, V24 PMU_XOUT, V25 PMU_XIN, W19 VDDIO11_AON, W21 AVDD, W24 PMU_RTC_O, W25 PMU_RTC_I, Y21 VDDIO15_AON, Y22 PMU_INT1, Y23 PMU_INT3, Y24 PMU_INT0, Y25 IR_DATA
part E pins: B15 CVBS1, B16 CVBS0, C4 SAR_KEY2, C8 IDAC_OUT, C14 CVBS2, D5 SAR_KEY1, D13 PADA_VCOM, D17 USB_OTG_ID, G24 USB_DP, G25 USB_DM, H25 XTAL_IN_MPLL, J24 TN, J25 TP, K24 RP, K25 RN, M24 MICINN, M25 MICINP, N24 MICBIAS, P22 AUDREF, P24 MICINN1, P25 MICINP1, R24 VOML_LINE0, R25 VOPL_LINE0, T24 VOMR_LINE0, T25 VOPR_LINE0
part F pins: A20 SD2_D7, A21 SD2_D1, A22 SD2_D4, A23 SD2_D5, A24 SD2_CLK, B20 SD2_D2, B21 SD2_D0, B22 SD2_D3, B23 SD2_D6, B24 SD2_CMD, B25 SD2_CD, C24 SD1_D2, C25 SD1_D3, D24 SD1_CMD, D25 SD1_CLK, E22 SD0_D2, E23 SD0_D3, E24 SD1_D0, E25 SD1_D1, F22 SD0_CMD, F23 SD0_CLK, F24 SD1_CD, G22 SD0_D1, G23 SD0_D0, H22 SD0_CD
part G pins: A17 SF_WP, A18 SF_CS, A19 SF_CLK, AA1 I2S_SDATA0, AA2 I2S_WS, AA3 PWM, AA4 RADAR_RXD, AB1 I2S_SDATA1, AB2 RD_POWER_EN, AC1 I2S_SCLK, AD1 I2S_MCLK, B17 SF_SI, B18 SF_HOLD, B19 SF_SO, C15 JTAG_TDI, C16 JTAG_TDO, C17 JTAG_TRSTN, C18 GPS_POWER_EN, C19 GPS_TXD, D4 FSOURCE, D15 JTAG_TMS, D16 JTAG_TCK, D18 GPS_RXD, W3 SPI_SI, W4 SPI_CS, W5 G_SEN_SCK, Y1 SPI_CLK, Y2 SPI_SO, Y3 UART_RX, Y4 UART_TX, Y5 G_SEN_SDA
part H pins: AA8 VDD11, AA10 DVDD_DDR, AA11 VDD11, AA13 VDD15, AA14 VDD15, AA18 VDD11, AA19 VDD11, AB8 VDD15, AB14 VDD15, AB22 VREF, AD2 VDD15, AD21 VDD15, C20 VDDIO33_SD2, D9 AVDD_MIPIM, D21 VDD11, D22 VDDIO33_SD1, E6 AVDD3P2_AUX_, E8 AVDD33_IDAC, E9 AVDD_MIPIM, E12 AVDD3P3_VIDEO, E14 VDDIO33, E15 VDDIO33, E16 VDDIO33_ARM, E17 VDD11_ARM, E20 VDD11, E21 VDD11, G3 VDDIO33, G4 VDDIO33, G5 VDDIO33, G16 VDD11_ARM, H23 VDDIO33, J4 VDD11, J5 VDD11, J21 VDD11_ARM, J22 VDDIO33_ARM, K5 VDD11, K21 AVDDLV_USB, K22 AVDD3P3_USB, L5 VDD11, L22 AVDD33_MPLL, M22 AVDD11_PLL, M23 AVDD33_PLL, N5 VDDIO33_SR, N21 VDDIO33, P5 VDDIO33_SR, P21 AVDD33_ETH, R5 VDD11, R21 VABB_DRV_AUDIO, U3 AVDD_MIPIS, U4 AVDD_MIPIS, U5 AVDD_MIPIS, U19 VDD11, U21 VDD11, V7 VDDIO33, V19 VDD11, W7 VDDIO33, W11 AVDD_PLL, W12 VDD15, W13 VDD15, W14 VDD15, W15 VDD11, W18 DVDD_DDR, W22 VDDIO33
part I pins: A1 VSS, A9 VSS, A15 AVSS_ADC, A16 AVSS_ADC, A25 VSS, B9 AGND, C5 VSS, C9 VSS, C10 AGND, C11 AGND, C12 AGND, C21 VSS, C22 VSS, C23 VSS, D3 VSS, D8 VSS, D10 AGND, D11 VSS, D12 VSS, D14 VSS, D19 VSS, D20 VSS, D23 VSS, E3 VSS, E4 VSS, E5 VSS, E7 VSS, E10 AGND, E11 VSS, E13 VSS, E18 VSS, E19 VSS, F4 VSS, F5 VSS, F21 VSS, F25 AVSS_USB, G7 VSS, G8 VSS, G9 VSS, G10 VSS, G11 VSS, G12 VSS, G13 VSS, G14 VSS, G15 VSS, G17 VSS, G18 VSS, G19 VSS, G21 VSS, H2 VSS, H4 VSS, H5 VSS, H6 VSS, H7 VSS, H8 VSS, H9 VSS, H10 VSS, H11 VSS, H12 VSS, H24 AVSS_USB, L21 AVSS_MPLL, M21 AVSS33_PLL, N25 GNDAUD_AUDIO, P23 GNDAUD_AUDIO, R23 GNDAUD_AUDIO, T3 AGND_MIPIS, T4 AGND_MIPIS, T5 AGND_MIPIS, T22 GNDAUD_AUDIO, T23 GNDAUD_AUDIO, V3 AGND_MIPIS, V4 AGND_MIPIS
part J pins: H13 VSS, H14 VSS, H15 VSS, H16 VSS, H17 VSS, H18 VSS, H19 VSS, H20 VSS, J7 VSS, J8 VSS, J9 VSS, J10 VSS, J11 VSS, J12 VSS, J13 VSS, J14 VSS, J15 VSS, J16 VSS, J17 VSS, J18 VSS, J19 VSS, J23 VSS, K7 VSS, K8 VSS, K9 VSS, K10 VSS, K11 VSS, K12 VSS, K13 VSS, K14 VSS, K15 VSS, K16 VSS, K17 VSS, K18 VSS, K19 VSS, K23 VSS, L7 VSS, L8 VSS, L9 VSS, L10 VSS, L11 VSS, L12 VSS, L13 VSS, L14 VSS, L15 VSS, L16 VSS, L17 VSS, L18 VSS, L19 VSS, L23 VSS, L24 VSS, L25 VSS, M5 VSS, M7 VSS, M8 VSS, M9 VSS, M10 VSS, M11 VSS, M12 VSS, M13 VSS, M14 VSS, M15 VSS, M16 VSS, M17 VSS, M18 VSS, M19 VSS, N4 VSS, N7 VSS, N8 VSS, N9 VSS, N10 VSS, N11 VSS
part K pins: N12 VSS, N13 VSS, N14 VSS, N15 VSS, N16 VSS, N17 VSS, N18 VSS, N19 VSS, N22 VSS, N23 VSS, P7 VSS, P8 VSS, P9 VSS, P10 VSS, P11 VSS, P12 VSS, P13 VSS, P14 VSS, P15 VSS, P16 VSS, P17 VSS, P18 VSS, P19 VSS, R7 VSS, R8 VSS, R9 VSS, R10 VSS, R11 VSS, R12 VSS, R13 VSS, R14 VSS, R15 VSS, R16 VSS, R17 VSS, R18 VSS, R19 VSS, R22 VSS, T7 VSS, T8 VSS, T9 VSS, T10 VSS, T11 VSS, T12 VSS, T13 VSS, T14 VSS, T15 VSS, T16 VSS, T17 VSS, T18 VSS, T19 VSS, T21 VSS, U7 VSS, U8 VSS, U9 VSS, U10 VSS, U11 VSS, U12 VSS, U13 VSS, U14 VSS, U15 VSS, U16 VSS, U17 VSS, U18 VSS, U22 VSS, U23 VSS, U24 VSS, U25 VSS, V8 VSS, V9 VSS, V10 VSS, V11 VSS, V12 VSS
part L pins: AA5 VSS, AA6 VSS, AA7 VSS, AA9 VSS, AA12 VSS, AA15 VSS, AA16 VSS, AA20 VSS, AA21 VSS, AB3 VSS, AB9 VSS, AB12 VSS, AB15 VSS, AB16 VSS, AB19 VSS, AC7 VSS, AC16 VSS, AC18 VSS, AC23 VSS, AD6 VSS, AD9 VSS, AD14 VSS, AD22 VSS, AE1 VSS, AE4 VSS, AE12 VSS, AE19 VSS, AE25 VSS, V13 VSS, V14 VSS, V15 VSS, V16 VSS, V17 VSS, V18 VSS, V21 VSS, V22 VSS, W8 VSS, W9 VSS, W10 VSS, W16 VSS, W17 VSS, W23 VSS

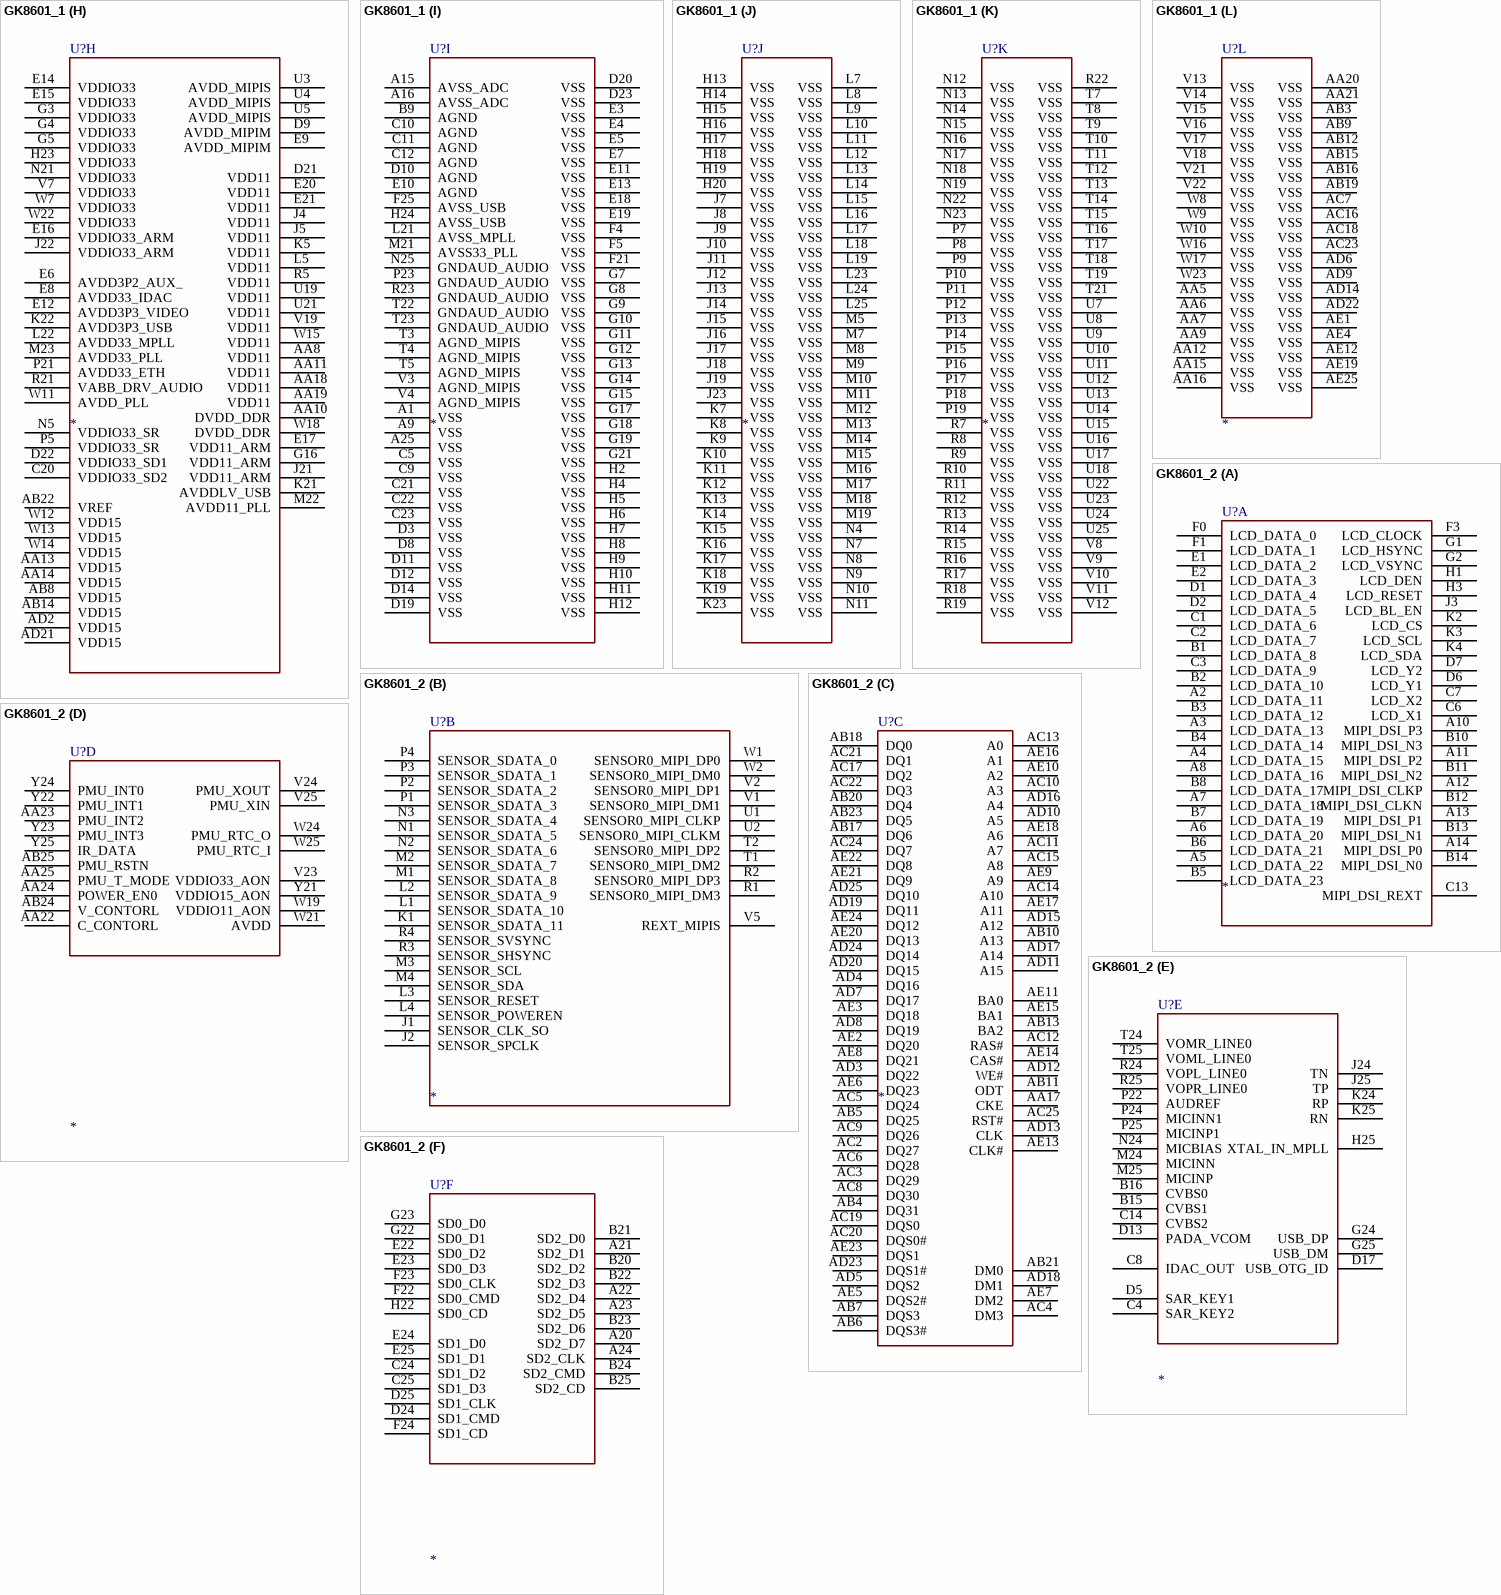
[diagram p6: symbols GK8601_1 to GK8601_2]

## GK8601_1
designator U?
part A pins: A2 LCD_DATA_11, A3 LCD_DATA_13, A4 LCD_DATA_15, A5 LCD_DATA_22, A6 LCD_DATA_20, A7 LCD_DATA_18, A8 LCD_DATA_16, A10 MIPI_DSI_P3, A11 MIPI_DSI_P2, A12 MIPI_DSI_CLKP, A13 MIPI_DSI_P1, A14 MIPI_DSI_P0, B1 LCD_DATA_8, B2 LCD_DATA_10, B3 LCD_DATA_12, B4 LCD_DATA_14, B5 LCD_DATA_23, B6 LCD_DATA_21, B7 LCD_DATA_19, B8 LCD_DATA_17, B10 MIPI_DSI_N3, B11 MIPI_DSI_N2, B12 MIPI_DSI_CLKN, B13 MIPI_DSI_N1, B14 MIPI_DSI_N0, C1 LCD_DATA_6, C2 LCD_DATA_7, C3 LCD_DATA_9, C6 LCD_X1, C7 LCD_X2, C13 MIPI_DSI_REXT, D1 LCD_DATA_4, D2 LCD_DATA_5, D6 LCD_Y1, D7 LCD_Y2, E1 LCD_DATA_2, E2 LCD_DATA_3, F0 LCD_DATA_0, F1 LCD_DATA_1, F3 LCD_CLOCK, G1 LCD_HSYNC, G2 LCD_VSYNC, H1 LCD_DEN, H3 LCD_RESET, J3 LCD_BL_EN, K2 LCD_CS, K3 LCD_SCL, K4 LCD_SDA
part B pins: J1 SENSOR_CLK_SO, J2 SENSOR_SPCLK, K1 SENSOR_SDATA_11, L1 SENSOR_SDATA_10, L2 SENSOR_SDATA_9, L3 SENSOR_RESET, L4 SENSOR_POWEREN, M1 SENSOR_SDATA_8, M2 SENSOR_SDATA_7, M3 SENSOR_SCL, M4 SENSOR_SDA, N1 SENSOR_SDATA_5, N2 SENSOR_SDATA_6, N3 SENSOR_SDATA_4, P1 SENSOR_SDATA_3, P2 SENSOR_SDATA_2, P3 SENSOR_SDATA_1, P4 SENSOR_SDATA_0, R1 SENSOR0_MIPI_DM3, R2 SENSOR0_MIPI_DP3, R3 SENSOR_SHSYNC, R4 SENSOR_SVSYNC, T1 SENSOR0_MIPI_DM2, T2 SENSOR0_MIPI_DP2, U1 SENSOR0_MIPI_CLKP, U2 SENSOR0_MIPI_CLKM, V1 SENSOR0_MIPI_DM1, V2 SENSOR0_MIPI_DP1, V5 REXT_MIPIS, W1 SENSOR0_MIPI_DP0, W2 SENSOR0_MIPI_DM0
part C pins: AA17 CKE, AB4 DQ31, AB5 DQ25, AB6 DQS3#, AB7 DQS3, AB10 A13, AB11 ODT, AB13 BA2, AB17 DQ6, AB18 DQ0, AB20 DQ4, AB21 DM0, AB23 DQ5, AC2 DQ27, AC3 DQ29, AC4 DM3, AC5 DQ24, AC6 DQ28, AC8 DQ30, AC9 DQ26, AC10 A3, AC11 A7, AC12 RAS#, AC13 A0, AC14 A10, AC15 A8, AC17 DQ2, AC19 DQS0, AC20 DQS0#, AC21 DQ1, AC22 DQ3, AC24 DQ7, AC25 RST#, AD3 DQ22, AD4 DQ16, AD5 DQS2, AD7 DQ17, AD8 DQ19, AD10 A5, AD11 A15, AD12 WE#, AD13 CLK, AD15 A12, AD16 A4, AD17 A14, AD18 DM1, AD19 DQ11, AD20 DQ15, AD23 DQS1#, AD24 DQ14, AD25 DQ10, AE2 DQ20, AE3 DQ18, AE5 DQS2#, AE6 DQ23, AE7 DM2, AE8 DQ21, AE9 A9, AE10 A2, AE11 BA0, AE13 CLK#, AE14 CAS#, AE15 BA1, AE16 A1, AE17 A11, AE18 A6, AE20 DQ13, AE21 DQ9, AE22 DQ8, AE23 DQS1, AE24 DQ12
part D pins: AA22 C_CONTORL, AA23 PMU_INT2, AA24 POWER_EN0, AA25 PMU_T_MODE, AB24 V_CONTORL, AB25 PMU_RSTN, V23 VDDIO33_AON, V24 PMU_XOUT, V25 PMU_XIN, W19 VDDIO11_AON, W21 AVDD, W24 PMU_RTC_O, W25 PMU_RTC_I, Y21 VDDIO15_AON, Y22 PMU_INT1, Y23 PMU_INT3, Y24 PMU_INT0, Y25 IR_DATA
part E pins: B15 CVBS1, B16 CVBS0, C4 SAR_KEY2, C8 IDAC_OUT, C14 CVBS2, D5 SAR_KEY1, D13 PADA_VCOM, D17 USB_OTG_ID, G24 USB_DP, G25 USB_DM, H25 XTAL_IN_MPLL, J24 TN, J25 TP, K24 RP, K25 RN, M24 MICINN, M25 MICINP, N24 MICBIAS, P22 AUDREF, P24 MICINN1, P25 MICINP1, R24 VOPR_LINE0, R25 VOMR_LINE0, T24 VOPL_LINE0, T25 VOML_LINE0
part F pins: A20 SD2_D7, A21 SD2_D1, A22 SD2_D4, A23 SD2_D5, A24 SD2_CLK, B20 SD2_D2, B21 SD2_D0, B22 SD2_D3, B23 SD2_D6, B24 SD2_CMD, B25 SD2_CD, C24 SD1_D2, C25 SD1_D3, D24 SD1_CMD, D25 SD1_CLK, E22 SD0_D2, E23 SD0_D3, E24 SD1_D0, E25 SD1_D1, F22 SD0_CMD, F23 SD0_CLK, F24 SD1_CD, G22 SD0_D1, G23 SD0_D0, H22 SD0_CD
part G pins: A17 SF_WP, A18 SF_CS, A19 SF_CLK, AA1 I2S_SDATA0, AA2 I2S_WS, AA3 PWM, AA4 RADAR_RXD, AB1 I2S_SDATA1, AB2 RD_POWER_EN, AC1 I2S_SCLK, AD1 I2S_MCLK, B17 SF_SI, B18 SF_HOLD, B19 SF_SO, C15 JTAG_TDI, C16 JTAG_TDO, C17 JTAG_TRSTN, C18 GPS_POWER_EN, C19 GPS_TXD, D4 FSOURCE, D15 JTAG_TMS, D16 JTAG_TCK, D18 GPS_RXD, W3 SPI_SI, W4 SPI_CS, W5 G_SEN_SCK, Y1 SPI_CLK, Y2 SPI_SO, Y3 UART_RX, Y4 UART_TX, Y5 G_SEN_SDA
part H pins: AA8 VDD11, AA10 DVDD_DDR, AA11 VDD11, AA13 VDD15, AA14 VDD15, AA18 VDD11, AA19 VDD11, AB8 VDD15, AB14 VDD15, AB22 VREF, AD2 VDD15, AD21 VDD15, C20 VDDIO33_SD2, D9 AVDD_MIPIM, D21 VDD11, D22 VDDIO33_SD1, E6 AVDD3P2_AUX_, E8 AVDD33_IDAC, E9 AVDD_MIPIM, E12 AVDD3P3_VIDEO, E14 VDDIO33, E15 VDDIO33, E16 VDDIO33_ARM, E17 VDD11_ARM, E20 VDD11, E21 VDD11, G3 VDDIO33, G4 VDDIO33, G5 VDDIO33, G16 VDD11_ARM, H23 VDDIO33, J4 VDD11, J5 VDD11, J21 VDD11_ARM, J22 VDDIO33_ARM, K5 VDD11, K21 AVDDLV_USB, K22 AVDD3P3_USB, L5 VDD11, L22 AVDD33_MPLL, M22 AVDD11_PLL, M23 AVDD33_PLL, N5 VDDIO33_SR, N21 VDDIO33, P5 VDDIO33_SR, P21 AVDD33_ETH, R5 VDD11, R21 VABB_DRV_AUDIO, U3 AVDD_MIPIS, U4 AVDD_MIPIS, U5 AVDD_MIPIS, U19 VDD11, U21 VDD11, V7 VDDIO33, V19 VDD11, W7 VDDIO33, W11 AVDD_PLL, W12 VDD15, W13 VDD15, W14 VDD15, W15 VDD11, W18 DVDD_DDR, W22 VDDIO33
part I pins: A1 VSS, A9 VSS, A15 AVSS_ADC, A16 AVSS_ADC, A25 VSS, B9 AGND, C5 VSS, C9 VSS, C10 AGND, C11 AGND, C12 AGND, C21 VSS, C22 VSS, C23 VSS, D3 VSS, D8 VSS, D10 AGND, D11 VSS, D12 VSS, D14 VSS, D19 VSS, D20 VSS, D23 VSS, E3 VSS, E4 VSS, E5 VSS, E7 VSS, E10 AGND, E11 VSS, E13 VSS, E18 VSS, E19 VSS, F4 VSS, F5 VSS, F21 VSS, F25 AVSS_USB, G7 VSS, G8 VSS, G9 VSS, G10 VSS, G11 VSS, G12 VSS, G13 VSS, G14 VSS, G15 VSS, G17 VSS, G18 VSS, G19 VSS, G21 VSS, H2 VSS, H4 VSS, H5 VSS, H6 VSS, H7 VSS, H8 VSS, H9 VSS, H10 VSS, H11 VSS, H12 VSS, H24 AVSS_USB, L21 AVSS_MPLL, M21 AVSS33_PLL, N25 GNDAUD_AUDIO, P23 GNDAUD_AUDIO, R23 GNDAUD_AUDIO, T3 AGND_MIPIS, T4 AGND_MIPIS, T5 AGND_MIPIS, T22 GNDAUD_AUDIO, T23 GNDAUD_AUDIO, V3 AGND_MIPIS, V4 AGND_MIPIS
part J pins: H13 VSS, H14 VSS, H15 VSS, H16 VSS, H17 VSS, H18 VSS, H19 VSS, H20 VSS, J7 VSS, J8 VSS, J9 VSS, J10 VSS, J11 VSS, J12 VSS, J13 VSS, J14 VSS, J15 VSS, J16 VSS, J17 VSS, J18 VSS, J19 VSS, J23 VSS, K7 VSS, K8 VSS, K9 VSS, K10 VSS, K11 VSS, K12 VSS, K13 VSS, K14 VSS, K15 VSS, K16 VSS, K17 VSS, K18 VSS, K19 VSS, K23 VSS, L7 VSS, L8 VSS, L9 VSS, L10 VSS, L11 VSS, L12 VSS, L13 VSS, L14 VSS, L15 VSS, L16 VSS, L17 VSS, L18 VSS, L19 VSS, L23 VSS, L24 VSS, L25 VSS, M5 VSS, M7 VSS, M8 VSS, M9 VSS, M10 VSS, M11 VSS, M12 VSS, M13 VSS, M14 VSS, M15 VSS, M16 VSS, M17 VSS, M18 VSS, M19 VSS, N4 VSS, N7 VSS, N8 VSS, N9 VSS, N10 VSS, N11 VSS
part K pins: N12 VSS, N13 VSS, N14 VSS, N15 VSS, N16 VSS, N17 VSS, N18 VSS, N19 VSS, N22 VSS, N23 VSS, P7 VSS, P8 VSS, P9 VSS, P10 VSS, P11 VSS, P12 VSS, P13 VSS, P14 VSS, P15 VSS, P16 VSS, P17 VSS, P18 VSS, P19 VSS, R7 VSS, R8 VSS, R9 VSS, R10 VSS, R11 VSS, R12 VSS, R13 VSS, R14 VSS, R15 VSS, R16 VSS, R17 VSS, R18 VSS, R19 VSS, R22 VSS, T7 VSS, T8 VSS, T9 VSS, T10 VSS, T11 VSS, T12 VSS, T13 VSS, T14 VSS, T15 VSS, T16 VSS, T17 VSS, T18 VSS, T19 VSS, T21 VSS, U7 VSS, U8 VSS, U9 VSS, U10 VSS, U11 VSS, U12 VSS, U13 VSS, U14 VSS, U15 VSS, U16 VSS, U17 VSS, U18 VSS, U22 VSS, U23 VSS, U24 VSS, U25 VSS, V8 VSS, V9 VSS, V10 VSS, V11 VSS, V12 VSS
part L pins: AA5 VSS, AA6 VSS, AA7 VSS, AA9 VSS, AA12 VSS, AA15 VSS, AA16 VSS, AA20 VSS, AA21 VSS, AB3 VSS, AB9 VSS, AB12 VSS, AB15 VSS, AB16 VSS, AB19 VSS, AC7 VSS, AC16 VSS, AC18 VSS, AC23 VSS, AD6 VSS, AD9 VSS, AD14 VSS, AD22 VSS, AE1 VSS, AE4 VSS, AE12 VSS, AE19 VSS, AE25 VSS, V13 VSS, V14 VSS, V15 VSS, V16 VSS, V17 VSS, V18 VSS, V21 VSS, V22 VSS, W8 VSS, W9 VSS, W10 VSS, W16 VSS, W17 VSS, W23 VSS

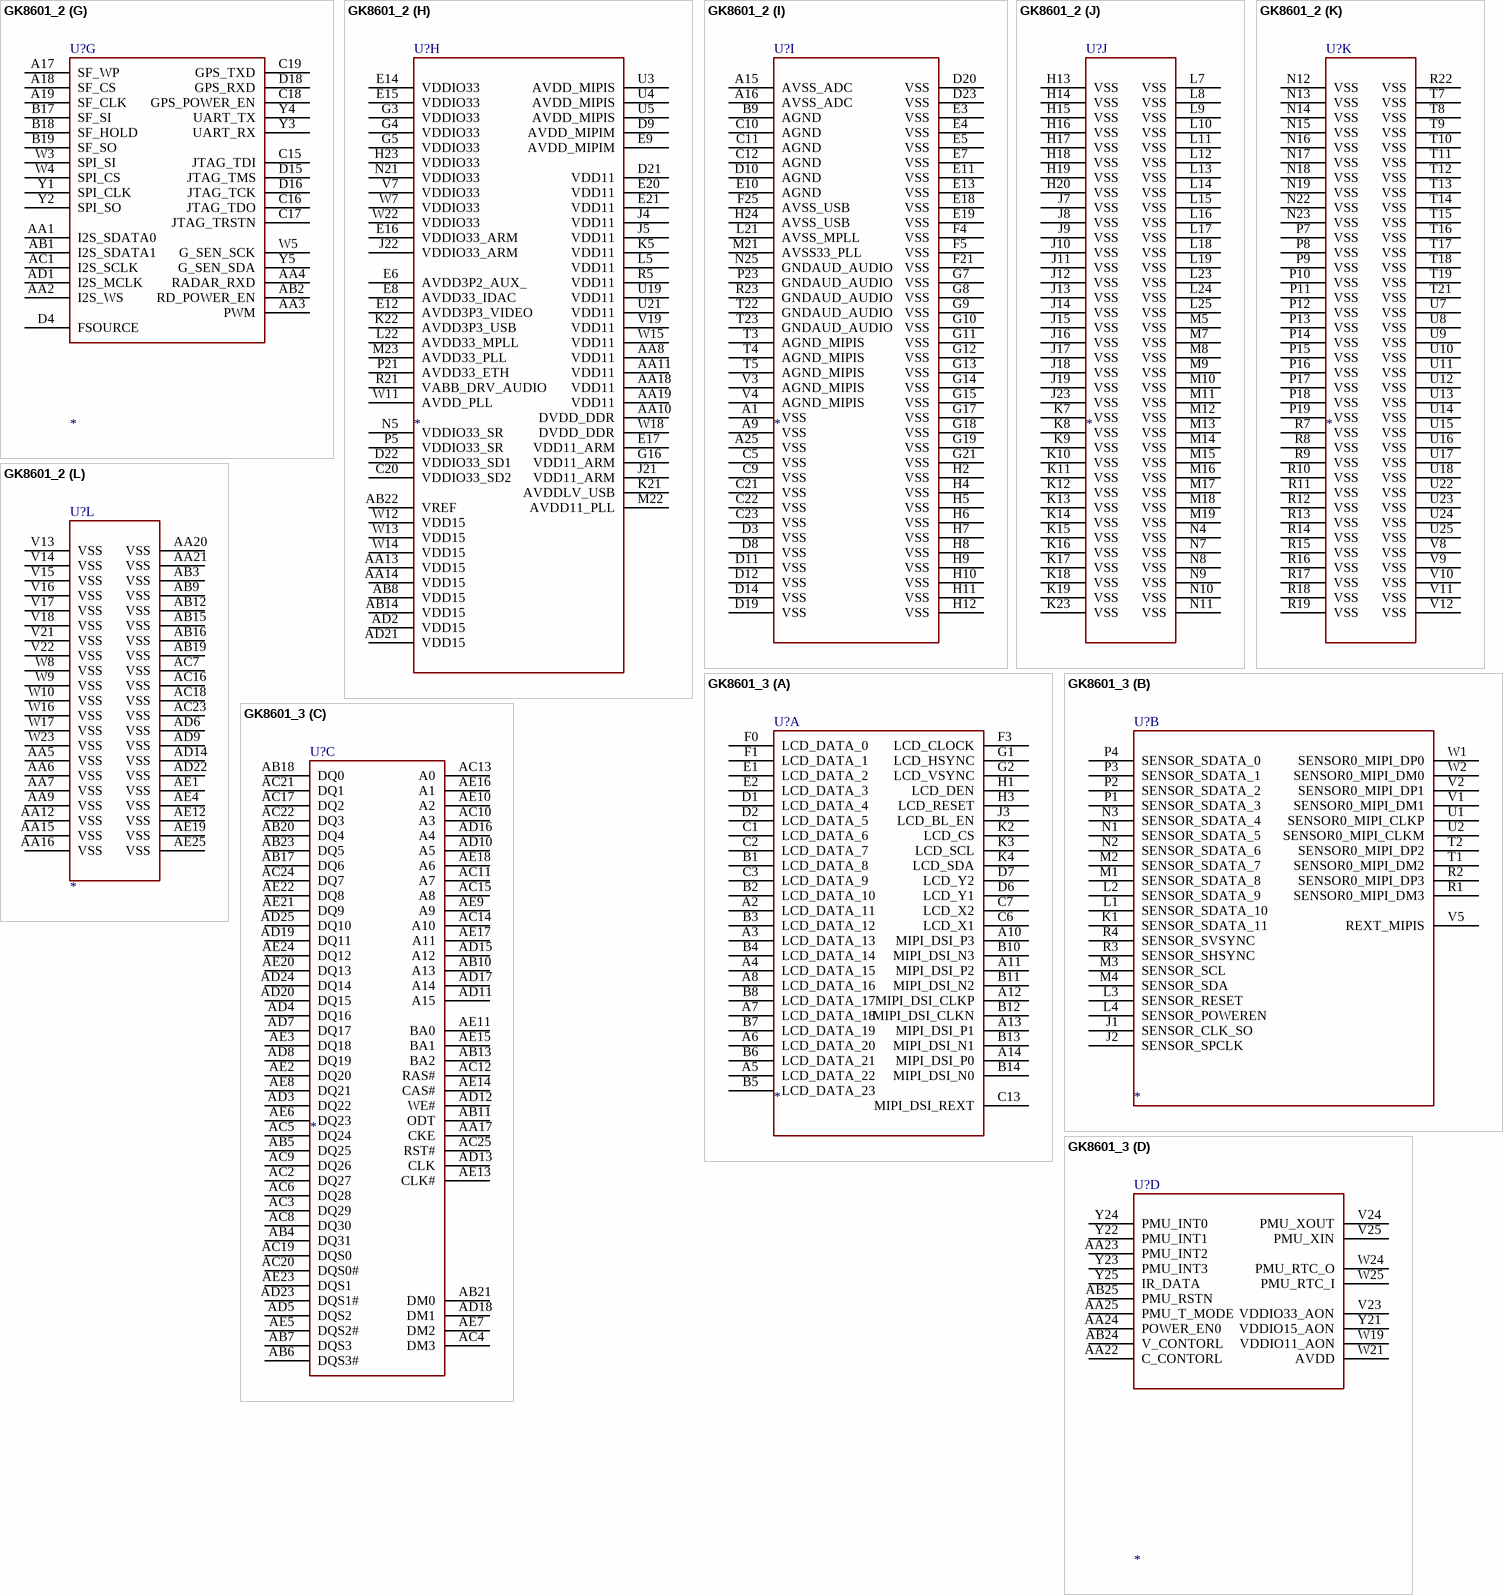
[diagram p7: symbols GK8601_2 to GK8601_3]

## GK8601_2
designator U?
part A pins: A2 LCD_DATA_11, A3 LCD_DATA_13, A4 LCD_DATA_15, A5 LCD_DATA_22, A6 LCD_DATA_20, A7 LCD_DATA_18, A8 LCD_DATA_16, A10 MIPI_DSI_P3, A11 MIPI_DSI_P2, A12 MIPI_DSI_CLKP, A13 MIPI_DSI_P1, A14 MIPI_DSI_P0, B1 LCD_DATA_8, B2 LCD_DATA_10, B3 LCD_DATA_12, B4 LCD_DATA_14, B5 LCD_DATA_23, B6 LCD_DATA_21, B7 LCD_DATA_19, B8 LCD_DATA_17, B10 MIPI_DSI_N3, B11 MIPI_DSI_N2, B12 MIPI_DSI_CLKN, B13 MIPI_DSI_N1, B14 MIPI_DSI_N0, C1 LCD_DATA_6, C2 LCD_DATA_7, C3 LCD_DATA_9, C6 LCD_X1, C7 LCD_X2, C13 MIPI_DSI_REXT, D1 LCD_DATA_4, D2 LCD_DATA_5, D6 LCD_Y1, D7 LCD_Y2, E1 LCD_DATA_2, E2 LCD_DATA_3, F0 LCD_DATA_0, F1 LCD_DATA_1, F3 LCD_CLOCK, G1 LCD_HSYNC, G2 LCD_VSYNC, H1 LCD_DEN, H3 LCD_RESET, J3 LCD_BL_EN, K2 LCD_CS, K3 LCD_SCL, K4 LCD_SDA
part B pins: J1 SENSOR_CLK_SO, J2 SENSOR_SPCLK, K1 SENSOR_SDATA_11, L1 SENSOR_SDATA_10, L2 SENSOR_SDATA_9, L3 SENSOR_RESET, L4 SENSOR_POWEREN, M1 SENSOR_SDATA_8, M2 SENSOR_SDATA_7, M3 SENSOR_SCL, M4 SENSOR_SDA, N1 SENSOR_SDATA_5, N2 SENSOR_SDATA_6, N3 SENSOR_SDATA_4, P1 SENSOR_SDATA_3, P2 SENSOR_SDATA_2, P3 SENSOR_SDATA_1, P4 SENSOR_SDATA_0, R1 SENSOR0_MIPI_DM3, R2 SENSOR0_MIPI_DP3, R3 SENSOR_SHSYNC, R4 SENSOR_SVSYNC, T1 SENSOR0_MIPI_DM2, T2 SENSOR0_MIPI_DP2, U1 SENSOR0_MIPI_CLKP, U2 SENSOR0_MIPI_CLKM, V1 SENSOR0_MIPI_DM1, V2 SENSOR0_MIPI_DP1, V5 REXT_MIPIS, W1 SENSOR0_MIPI_DP0, W2 SENSOR0_MIPI_DM0
part C pins: AA17 CKE, AB4 DQ31, AB5 DQ25, AB6 DQS3#, AB7 DQS3, AB10 A13, AB11 ODT, AB13 BA2, AB17 DQ6, AB18 DQ0, AB20 DQ4, AB21 DM0, AB23 DQ5, AC2 DQ27, AC3 DQ29, AC4 DM3, AC5 DQ24, AC6 DQ28, AC8 DQ30, AC9 DQ26, AC10 A3, AC11 A7, AC12 RAS#, AC13 A0, AC14 A10, AC15 A8, AC17 DQ2, AC19 DQS0, AC20 DQS0#, AC21 DQ1, AC22 DQ3, AC24 DQ7, AC25 RST#, AD3 DQ22, AD4 DQ16, AD5 DQS2, AD7 DQ17, AD8 DQ19, AD10 A5, AD11 A15, AD12 WE#, AD13 CLK, AD15 A12, AD16 A4, AD17 A14, AD18 DM1, AD19 DQ11, AD20 DQ15, AD23 DQS1#, AD24 DQ14, AD25 DQ10, AE2 DQ20, AE3 DQ18, AE5 DQS2#, AE6 DQ23, AE7 DM2, AE8 DQ21, AE9 A9, AE10 A2, AE11 BA0, AE13 CLK#, AE14 CAS#, AE15 BA1, AE16 A1, AE17 A11, AE18 A6, AE20 DQ13, AE21 DQ9, AE22 DQ8, AE23 DQS1, AE24 DQ12
part D pins: AA22 C_CONTORL, AA23 PMU_INT2, AA24 POWER_EN0, AA25 PMU_T_MODE, AB24 V_CONTORL, AB25 PMU_RSTN, V23 VDDIO33_AON, V24 PMU_XOUT, V25 PMU_XIN, W19 VDDIO11_AON, W21 AVDD, W24 PMU_RTC_O, W25 PMU_RTC_I, Y21 VDDIO15_AON, Y22 PMU_INT1, Y23 PMU_INT3, Y24 PMU_INT0, Y25 IR_DATA
part E pins: B15 CVBS1, B16 CVBS0, C4 SAR_KEY2, C8 IDAC_OUT, C14 CVBS2, D5 SAR_KEY1, D13 PADA_VCOM, D17 USB_OTG_ID, G24 USB_DP, G25 USB_DM, H25 XTAL_IN_MPLL, J24 TN, J25 TP, K24 RP, K25 RN, M24 MICINN, M25 MICINP, N24 MICBIAS, P22 AUDREF, P24 MICINN1, P25 MICINP1, R24 VOPL_LINE0, R25 VOPR_LINE0, T24 VOMR_LINE0, T25 VOML_LINE0
part F pins: A20 SD2_D7, A21 SD2_D1, A22 SD2_D4, A23 SD2_D5, A24 SD2_CLK, B20 SD2_D2, B21 SD2_D0, B22 SD2_D3, B23 SD2_D6, B24 SD2_CMD, B25 SD2_CD, C24 SD1_D2, C25 SD1_D3, D24 SD1_CMD, D25 SD1_CLK, E22 SD0_D2, E23 SD0_D3, E24 SD1_D0, E25 SD1_D1, F22 SD0_CMD, F23 SD0_CLK, F24 SD1_CD, G22 SD0_D1, G23 SD0_D0, H22 SD0_CD
part G pins: A17 SF_WP, A18 SF_CS, A19 SF_CLK, AA1 I2S_SDATA0, AA2 I2S_WS, AA3 PWM, AA4 RADAR_RXD, AB1 I2S_SDATA1, AB2 RD_POWER_EN, AC1 I2S_SCLK, AD1 I2S_MCLK, B17 SF_SI, B18 SF_HOLD, B19 SF_SO, C15 JTAG_TDI, C16 JTAG_TDO, C17 JTAG_TRSTN, C18 GPS_POWER_EN, C19 GPS_TXD, D4 FSOURCE, D15 JTAG_TMS, D16 JTAG_TCK, D18 GPS_RXD, W3 SPI_SI, W4 SPI_CS, W5 G_SEN_SCK, Y1 SPI_CLK, Y2 SPI_SO, Y3 UART_RX, Y4 UART_TX, Y5 G_SEN_SDA
part H pins: AA8 VDD11, AA10 DVDD_DDR, AA11 VDD11, AA13 VDD15, AA14 VDD15, AA18 VDD11, AA19 VDD11, AB8 VDD15, AB14 VDD15, AB22 VREF, AD2 VDD15, AD21 VDD15, C20 VDDIO33_SD2, D9 AVDD_MIPIM, D21 VDD11, D22 VDDIO33_SD1, E6 AVDD3P2_AUX_, E8 AVDD33_IDAC, E9 AVDD_MIPIM, E12 AVDD3P3_VIDEO, E14 VDDIO33, E15 VDDIO33, E16 VDDIO33_ARM, E17 VDD11_ARM, E20 VDD11, E21 VDD11, G3 VDDIO33, G4 VDDIO33, G5 VDDIO33, G16 VDD11_ARM, H23 VDDIO33, J4 VDD11, J5 VDD11, J21 VDD11_ARM, J22 VDDIO33_ARM, K5 VDD11, K21 AVDDLV_USB, K22 AVDD3P3_USB, L5 VDD11, L22 AVDD33_MPLL, M22 AVDD11_PLL, M23 AVDD33_PLL, N5 VDDIO33_SR, N21 VDDIO33, P5 VDDIO33_SR, P21 AVDD33_ETH, R5 VDD11, R21 VABB_DRV_AUDIO, U3 AVDD_MIPIS, U4 AVDD_MIPIS, U5 AVDD_MIPIS, U19 VDD11, U21 VDD11, V7 VDDIO33, V19 VDD11, W7 VDDIO33, W11 AVDD_PLL, W12 VDD15, W13 VDD15, W14 VDD15, W15 VDD11, W18 DVDD_DDR, W22 VDDIO33
part I pins: A1 VSS, A9 VSS, A15 AVSS_ADC, A16 AVSS_ADC, A25 VSS, B9 AGND, C5 VSS, C9 VSS, C10 AGND, C11 AGND, C12 AGND, C21 VSS, C22 VSS, C23 VSS, D3 VSS, D8 VSS, D10 AGND, D11 VSS, D12 VSS, D14 VSS, D19 VSS, D20 VSS, D23 VSS, E3 VSS, E4 VSS, E5 VSS, E7 VSS, E10 AGND, E11 VSS, E13 VSS, E18 VSS, E19 VSS, F4 VSS, F5 VSS, F21 VSS, F25 AVSS_USB, G7 VSS, G8 VSS, G9 VSS, G10 VSS, G11 VSS, G12 VSS, G13 VSS, G14 VSS, G15 VSS, G17 VSS, G18 VSS, G19 VSS, G21 VSS, H2 VSS, H4 VSS, H5 VSS, H6 VSS, H7 VSS, H8 VSS, H9 VSS, H10 VSS, H11 VSS, H12 VSS, H24 AVSS_USB, L21 AVSS_MPLL, M21 AVSS33_PLL, N25 GNDAUD_AUDIO, P23 GNDAUD_AUDIO, R23 GNDAUD_AUDIO, T3 AGND_MIPIS, T4 AGND_MIPIS, T5 AGND_MIPIS, T22 GNDAUD_AUDIO, T23 GNDAUD_AUDIO, V3 AGND_MIPIS, V4 AGND_MIPIS
part J pins: H13 VSS, H14 VSS, H15 VSS, H16 VSS, H17 VSS, H18 VSS, H19 VSS, H20 VSS, J7 VSS, J8 VSS, J9 VSS, J10 VSS, J11 VSS, J12 VSS, J13 VSS, J14 VSS, J15 VSS, J16 VSS, J17 VSS, J18 VSS, J19 VSS, J23 VSS, K7 VSS, K8 VSS, K9 VSS, K10 VSS, K11 VSS, K12 VSS, K13 VSS, K14 VSS, K15 VSS, K16 VSS, K17 VSS, K18 VSS, K19 VSS, K23 VSS, L7 VSS, L8 VSS, L9 VSS, L10 VSS, L11 VSS, L12 VSS, L13 VSS, L14 VSS, L15 VSS, L16 VSS, L17 VSS, L18 VSS, L19 VSS, L23 VSS, L24 VSS, L25 VSS, M5 VSS, M7 VSS, M8 VSS, M9 VSS, M10 VSS, M11 VSS, M12 VSS, M13 VSS, M14 VSS, M15 VSS, M16 VSS, M17 VSS, M18 VSS, M19 VSS, N4 VSS, N7 VSS, N8 VSS, N9 VSS, N10 VSS, N11 VSS
part K pins: N12 VSS, N13 VSS, N14 VSS, N15 VSS, N16 VSS, N17 VSS, N18 VSS, N19 VSS, N22 VSS, N23 VSS, P7 VSS, P8 VSS, P9 VSS, P10 VSS, P11 VSS, P12 VSS, P13 VSS, P14 VSS, P15 VSS, P16 VSS, P17 VSS, P18 VSS, P19 VSS, R7 VSS, R8 VSS, R9 VSS, R10 VSS, R11 VSS, R12 VSS, R13 VSS, R14 VSS, R15 VSS, R16 VSS, R17 VSS, R18 VSS, R19 VSS, R22 VSS, T7 VSS, T8 VSS, T9 VSS, T10 VSS, T11 VSS, T12 VSS, T13 VSS, T14 VSS, T15 VSS, T16 VSS, T17 VSS, T18 VSS, T19 VSS, T21 VSS, U7 VSS, U8 VSS, U9 VSS, U10 VSS, U11 VSS, U12 VSS, U13 VSS, U14 VSS, U15 VSS, U16 VSS, U17 VSS, U18 VSS, U22 VSS, U23 VSS, U24 VSS, U25 VSS, V8 VSS, V9 VSS, V10 VSS, V11 VSS, V12 VSS
part L pins: AA5 VSS, AA6 VSS, AA7 VSS, AA9 VSS, AA12 VSS, AA15 VSS, AA16 VSS, AA20 VSS, AA21 VSS, AB3 VSS, AB9 VSS, AB12 VSS, AB15 VSS, AB16 VSS, AB19 VSS, AC7 VSS, AC16 VSS, AC18 VSS, AC23 VSS, AD6 VSS, AD9 VSS, AD14 VSS, AD22 VSS, AE1 VSS, AE4 VSS, AE12 VSS, AE19 VSS, AE25 VSS, V13 VSS, V14 VSS, V15 VSS, V16 VSS, V17 VSS, V18 VSS, V21 VSS, V22 VSS, W8 VSS, W9 VSS, W10 VSS, W16 VSS, W17 VSS, W23 VSS

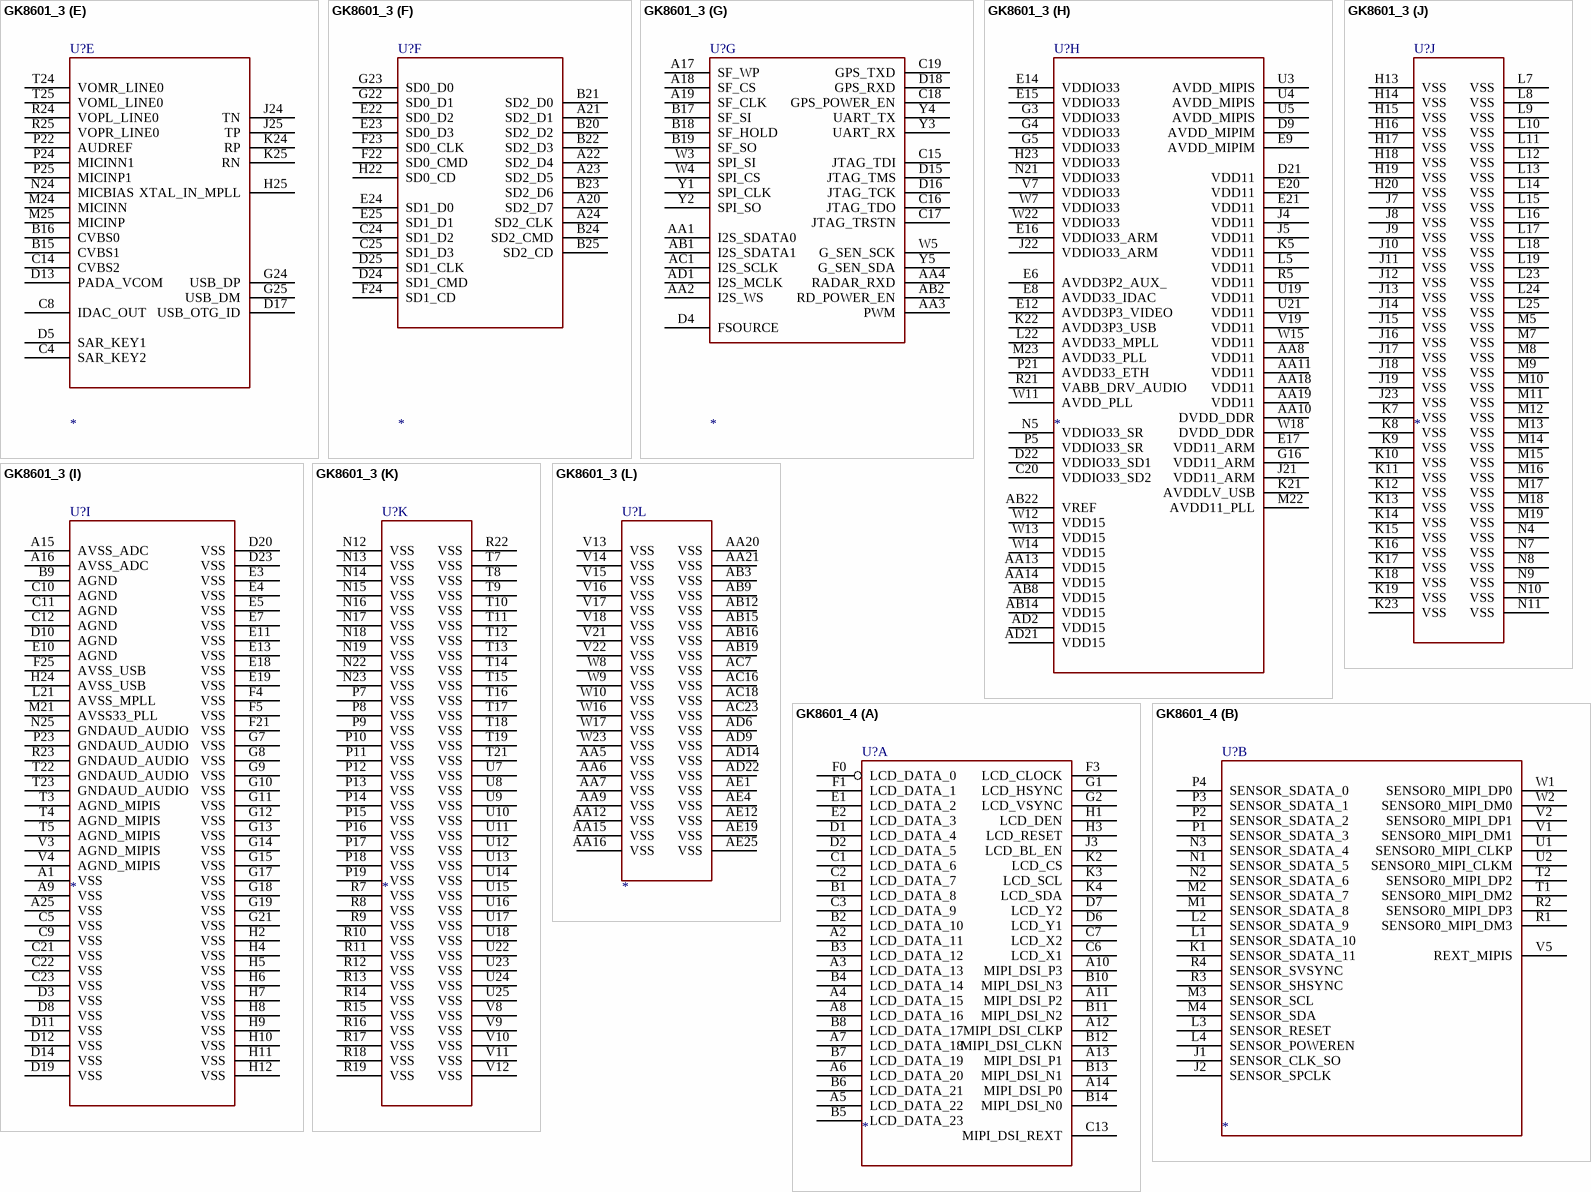
[diagram p8: symbols GK8601_3 to GK8601_4]

## GK8601_3
designator U?
part A pins: A2 LCD_DATA_11, A3 LCD_DATA_13, A4 LCD_DATA_15, A5 LCD_DATA_22, A6 LCD_DATA_20, A7 LCD_DATA_18, A8 LCD_DATA_16, A10 MIPI_DSI_P3, A11 MIPI_DSI_P2, A12 MIPI_DSI_CLKP, A13 MIPI_DSI_P1, A14 MIPI_DSI_P0, B1 LCD_DATA_8, B2 LCD_DATA_10, B3 LCD_DATA_12, B4 LCD_DATA_14, B5 LCD_DATA_23, B6 LCD_DATA_21, B7 LCD_DATA_19, B8 LCD_DATA_17, B10 MIPI_DSI_N3, B11 MIPI_DSI_N2, B12 MIPI_DSI_CLKN, B13 MIPI_DSI_N1, B14 MIPI_DSI_N0, C1 LCD_DATA_6, C2 LCD_DATA_7, C3 LCD_DATA_9, C6 LCD_X1, C7 LCD_X2, C13 MIPI_DSI_REXT, D1 LCD_DATA_4, D2 LCD_DATA_5, D6 LCD_Y1, D7 LCD_Y2, E1 LCD_DATA_2, E2 LCD_DATA_3, F0 LCD_DATA_0, F1 LCD_DATA_1, F3 LCD_CLOCK, G1 LCD_HSYNC, G2 LCD_VSYNC, H1 LCD_DEN, H3 LCD_RESET, J3 LCD_BL_EN, K2 LCD_CS, K3 LCD_SCL, K4 LCD_SDA
part B pins: J1 SENSOR_CLK_SO, J2 SENSOR_SPCLK, K1 SENSOR_SDATA_11, L1 SENSOR_SDATA_10, L2 SENSOR_SDATA_9, L3 SENSOR_RESET, L4 SENSOR_POWEREN, M1 SENSOR_SDATA_8, M2 SENSOR_SDATA_7, M3 SENSOR_SCL, M4 SENSOR_SDA, N1 SENSOR_SDATA_5, N2 SENSOR_SDATA_6, N3 SENSOR_SDATA_4, P1 SENSOR_SDATA_3, P2 SENSOR_SDATA_2, P3 SENSOR_SDATA_1, P4 SENSOR_SDATA_0, R1 SENSOR0_MIPI_DM3, R2 SENSOR0_MIPI_DP3, R3 SENSOR_SHSYNC, R4 SENSOR_SVSYNC, T1 SENSOR0_MIPI_DM2, T2 SENSOR0_MIPI_DP2, U1 SENSOR0_MIPI_CLKP, U2 SENSOR0_MIPI_CLKM, V1 SENSOR0_MIPI_DM1, V2 SENSOR0_MIPI_DP1, V5 REXT_MIPIS, W1 SENSOR0_MIPI_DP0, W2 SENSOR0_MIPI_DM0
part C pins: AA17 CKE, AB4 DQ31, AB5 DQ25, AB6 DQS3#, AB7 DQS3, AB10 A13, AB11 ODT, AB13 BA2, AB17 DQ6, AB18 DQ0, AB20 DQ4, AB21 DM0, AB23 DQ5, AC2 DQ27, AC3 DQ29, AC4 DM3, AC5 DQ24, AC6 DQ28, AC8 DQ30, AC9 DQ26, AC10 A3, AC11 A7, AC12 RAS#, AC13 A0, AC14 A10, AC15 A8, AC17 DQ2, AC19 DQS0, AC20 DQS0#, AC21 DQ1, AC22 DQ3, AC24 DQ7, AC25 RST#, AD3 DQ22, AD4 DQ16, AD5 DQS2, AD7 DQ17, AD8 DQ19, AD10 A5, AD11 A15, AD12 WE#, AD13 CLK, AD15 A12, AD16 A4, AD17 A14, AD18 DM1, AD19 DQ11, AD20 DQ15, AD23 DQS1#, AD24 DQ14, AD25 DQ10, AE2 DQ20, AE3 DQ18, AE5 DQS2#, AE6 DQ23, AE7 DM2, AE8 DQ21, AE9 A9, AE10 A2, AE11 BA0, AE13 CLK#, AE14 CAS#, AE15 BA1, AE16 A1, AE17 A11, AE18 A6, AE20 DQ13, AE21 DQ9, AE22 DQ8, AE23 DQS1, AE24 DQ12
part D pins: AA22 C_CONTORL, AA23 PMU_INT2, AA24 POWER_EN0, AA25 PMU_T_MODE, AB24 V_CONTORL, AB25 PMU_RSTN, V23 VDDIO33_AON, V24 PMU_XOUT, V25 PMU_XIN, W19 VDDIO11_AON, W21 AVDD, W24 PMU_RTC_O, W25 PMU_RTC_I, Y21 VDDIO15_AON, Y22 PMU_INT1, Y23 PMU_INT3, Y24 PMU_INT0, Y25 IR_DATA
part E pins: B15 CVBS1, B16 CVBS0, C4 SAR_KEY2, C8 IDAC_OUT, C14 CVBS2, D5 SAR_KEY1, D13 PADA_VCOM, D17 USB_OTG_ID, G24 USB_DP, G25 USB_DM, H25 XTAL_IN_MPLL, J24 TN, J25 TP, K24 RP, K25 RN, M24 MICINN, M25 MICINP, N24 MICBIAS, P22 AUDREF, P24 MICINN1, P25 MICINP1, R24 VOPL_LINE0, R25 VOPR_LINE0, T24 VOMR_LINE0, T25 VOML_LINE0
part F pins: A20 SD2_D7, A21 SD2_D1, A22 SD2_D4, A23 SD2_D5, A24 SD2_CLK, B20 SD2_D2, B21 SD2_D0, B22 SD2_D3, B23 SD2_D6, B24 SD2_CMD, B25 SD2_CD, C24 SD1_D2, C25 SD1_D3, D24 SD1_CMD, D25 SD1_CLK, E22 SD0_D2, E23 SD0_D3, E24 SD1_D0, E25 SD1_D1, F22 SD0_CMD, F23 SD0_CLK, F24 SD1_CD, G22 SD0_D1, G23 SD0_D0, H22 SD0_CD
part G pins: A17 SF_WP, A18 SF_CS, A19 SF_CLK, AA1 I2S_SDATA0, AA2 I2S_WS, AA3 PWM, AA4 RADAR_RXD, AB1 I2S_SDATA1, AB2 RD_POWER_EN, AC1 I2S_SCLK, AD1 I2S_MCLK, B17 SF_SI, B18 SF_HOLD, B19 SF_SO, C15 JTAG_TDI, C16 JTAG_TDO, C17 JTAG_TRSTN, C18 GPS_POWER_EN, C19 GPS_TXD, D4 FSOURCE, D15 JTAG_TMS, D16 JTAG_TCK, D18 GPS_RXD, W3 SPI_SI, W4 SPI_CS, W5 G_SEN_SCK, Y1 SPI_CLK, Y2 SPI_SO, Y3 UART_RX, Y4 UART_TX, Y5 G_SEN_SDA
part H pins: AA8 VDD11, AA10 DVDD_DDR, AA11 VDD11, AA13 VDD15, AA14 VDD15, AA18 VDD11, AA19 VDD11, AB8 VDD15, AB14 VDD15, AB22 VREF, AD2 VDD15, AD21 VDD15, C20 VDDIO33_SD2, D9 AVDD_MIPIM, D21 VDD11, D22 VDDIO33_SD1, E6 AVDD3P2_AUX_, E8 AVDD33_IDAC, E9 AVDD_MIPIM, E12 AVDD3P3_VIDEO, E14 VDDIO33, E15 VDDIO33, E16 VDDIO33_ARM, E17 VDD11_ARM, E20 VDD11, E21 VDD11, G3 VDDIO33, G4 VDDIO33, G5 VDDIO33, G16 VDD11_ARM, H23 VDDIO33, J4 VDD11, J5 VDD11, J21 VDD11_ARM, J22 VDDIO33_ARM, K5 VDD11, K21 AVDDLV_USB, K22 AVDD3P3_USB, L5 VDD11, L22 AVDD33_MPLL, M22 AVDD11_PLL, M23 AVDD33_PLL, N5 VDDIO33_SR, N21 VDDIO33, P5 VDDIO33_SR, P21 AVDD33_ETH, R5 VDD11, R21 VABB_DRV_AUDIO, U3 AVDD_MIPIS, U4 AVDD_MIPIS, U5 AVDD_MIPIS, U19 VDD11, U21 VDD11, V7 VDDIO33, V19 VDD11, W7 VDDIO33, W11 AVDD_PLL, W12 VDD15, W13 VDD15, W14 VDD15, W15 VDD11, W18 DVDD_DDR, W22 VDDIO33
part I pins: A1 VSS, A9 VSS, A15 AVSS_ADC, A16 AVSS_ADC, A25 VSS, B9 AGND, C5 VSS, C9 VSS, C10 AGND, C11 AGND, C12 AGND, C21 VSS, C22 VSS, C23 VSS, D3 VSS, D8 VSS, D10 AGND, D11 VSS, D12 VSS, D14 VSS, D19 VSS, D20 VSS, D23 VSS, E3 VSS, E4 VSS, E5 VSS, E7 VSS, E10 AGND, E11 VSS, E13 VSS, E18 VSS, E19 VSS, F4 VSS, F5 VSS, F21 VSS, F25 AVSS_USB, G7 VSS, G8 VSS, G9 VSS, G10 VSS, G11 VSS, G12 VSS, G13 VSS, G14 VSS, G15 VSS, G17 VSS, G18 VSS, G19 VSS, G21 VSS, H2 VSS, H4 VSS, H5 VSS, H6 VSS, H7 VSS, H8 VSS, H9 VSS, H10 VSS, H11 VSS, H12 VSS, H24 AVSS_USB, L21 AVSS_MPLL, M21 AVSS33_PLL, N25 GNDAUD_AUDIO, P23 GNDAUD_AUDIO, R23 GNDAUD_AUDIO, T3 AGND_MIPIS, T4 AGND_MIPIS, T5 AGND_MIPIS, T22 GNDAUD_AUDIO, T23 GNDAUD_AUDIO, V3 AGND_MIPIS, V4 AGND_MIPIS
part J pins: H13 VSS, H14 VSS, H15 VSS, H16 VSS, H17 VSS, H18 VSS, H19 VSS, H20 VSS, J7 VSS, J8 VSS, J9 VSS, J10 VSS, J11 VSS, J12 VSS, J13 VSS, J14 VSS, J15 VSS, J16 VSS, J17 VSS, J18 VSS, J19 VSS, J23 VSS, K7 VSS, K8 VSS, K9 VSS, K10 VSS, K11 VSS, K12 VSS, K13 VSS, K14 VSS, K15 VSS, K16 VSS, K17 VSS, K18 VSS, K19 VSS, K23 VSS, L7 VSS, L8 VSS, L9 VSS, L10 VSS, L11 VSS, L12 VSS, L13 VSS, L14 VSS, L15 VSS, L16 VSS, L17 VSS, L18 VSS, L19 VSS, L23 VSS, L24 VSS, L25 VSS, M5 VSS, M7 VSS, M8 VSS, M9 VSS, M10 VSS, M11 VSS, M12 VSS, M13 VSS, M14 VSS, M15 VSS, M16 VSS, M17 VSS, M18 VSS, M19 VSS, N4 VSS, N7 VSS, N8 VSS, N9 VSS, N10 VSS, N11 VSS
part K pins: N12 VSS, N13 VSS, N14 VSS, N15 VSS, N16 VSS, N17 VSS, N18 VSS, N19 VSS, N22 VSS, N23 VSS, P7 VSS, P8 VSS, P9 VSS, P10 VSS, P11 VSS, P12 VSS, P13 VSS, P14 VSS, P15 VSS, P16 VSS, P17 VSS, P18 VSS, P19 VSS, R7 VSS, R8 VSS, R9 VSS, R10 VSS, R11 VSS, R12 VSS, R13 VSS, R14 VSS, R15 VSS, R16 VSS, R17 VSS, R18 VSS, R19 VSS, R22 VSS, T7 VSS, T8 VSS, T9 VSS, T10 VSS, T11 VSS, T12 VSS, T13 VSS, T14 VSS, T15 VSS, T16 VSS, T17 VSS, T18 VSS, T19 VSS, T21 VSS, U7 VSS, U8 VSS, U9 VSS, U10 VSS, U11 VSS, U12 VSS, U13 VSS, U14 VSS, U15 VSS, U16 VSS, U17 VSS, U18 VSS, U22 VSS, U23 VSS, U24 VSS, U25 VSS, V8 VSS, V9 VSS, V10 VSS, V11 VSS, V12 VSS
part L pins: AA5 VSS, AA6 VSS, AA7 VSS, AA9 VSS, AA12 VSS, AA15 VSS, AA16 VSS, AA20 VSS, AA21 VSS, AB3 VSS, AB9 VSS, AB12 VSS, AB15 VSS, AB16 VSS, AB19 VSS, AC7 VSS, AC16 VSS, AC18 VSS, AC23 VSS, AD6 VSS, AD9 VSS, AD14 VSS, AD22 VSS, AE1 VSS, AE4 VSS, AE12 VSS, AE19 VSS, AE25 VSS, V13 VSS, V14 VSS, V15 VSS, V16 VSS, V17 VSS, V18 VSS, V21 VSS, V22 VSS, W8 VSS, W9 VSS, W10 VSS, W16 VSS, W17 VSS, W23 VSS

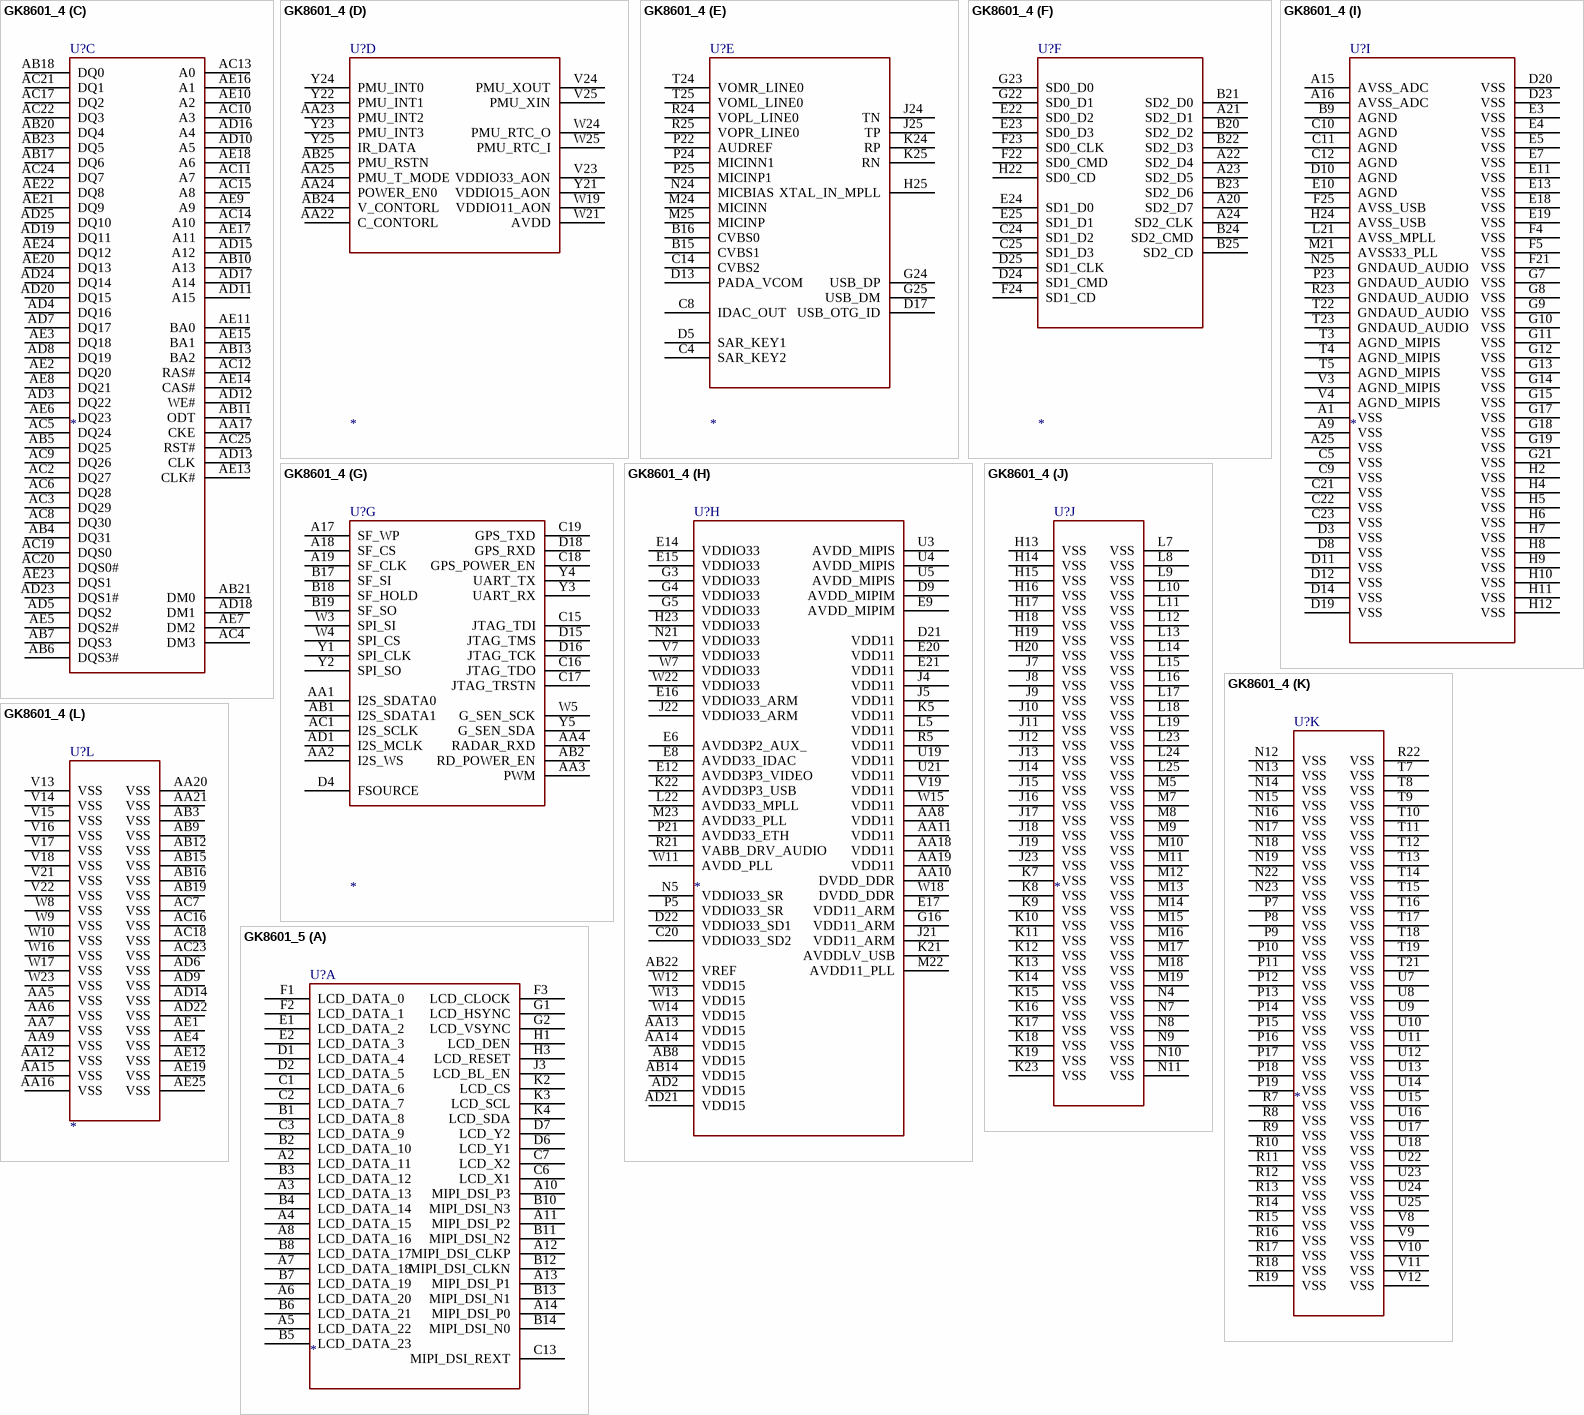
[diagram p9: symbols GK8601_4 to GK8601_5]

## GK8601_4
designator U?
part A pins: A2 LCD_DATA_11, A3 LCD_DATA_13, A4 LCD_DATA_15, A5 LCD_DATA_22, A6 LCD_DATA_20, A7 LCD_DATA_18, A8 LCD_DATA_16, A10 MIPI_DSI_P3, A11 MIPI_DSI_P2, A12 MIPI_DSI_CLKP, A13 MIPI_DSI_P1, A14 MIPI_DSI_P0, B1 LCD_DATA_8, B2 LCD_DATA_10, B3 LCD_DATA_12, B4 LCD_DATA_14, B5 LCD_DATA_23, B6 LCD_DATA_21, B7 LCD_DATA_19, B8 LCD_DATA_17, B10 MIPI_DSI_N3, B11 MIPI_DSI_N2, B12 MIPI_DSI_CLKN, B13 MIPI_DSI_N1, B14 MIPI_DSI_N0, C1 LCD_DATA_6, C2 LCD_DATA_7, C3 LCD_DATA_9, C6 LCD_X1, C7 LCD_X2, C13 MIPI_DSI_REXT, D1 LCD_DATA_4, D2 LCD_DATA_5, D6 LCD_Y1, D7 LCD_Y2, E1 LCD_DATA_2, E2 LCD_DATA_3, F0 LCD_DATA_0, F1 LCD_DATA_1, F3 LCD_CLOCK, G1 LCD_HSYNC, G2 LCD_VSYNC, H1 LCD_DEN, H3 LCD_RESET, J3 LCD_BL_EN, K2 LCD_CS, K3 LCD_SCL, K4 LCD_SDA
part B pins: J1 SENSOR_CLK_SO, J2 SENSOR_SPCLK, K1 SENSOR_SDATA_11, L1 SENSOR_SDATA_10, L2 SENSOR_SDATA_9, L3 SENSOR_RESET, L4 SENSOR_POWEREN, M1 SENSOR_SDATA_8, M2 SENSOR_SDATA_7, M3 SENSOR_SCL, M4 SENSOR_SDA, N1 SENSOR_SDATA_5, N2 SENSOR_SDATA_6, N3 SENSOR_SDATA_4, P1 SENSOR_SDATA_3, P2 SENSOR_SDATA_2, P3 SENSOR_SDATA_1, P4 SENSOR_SDATA_0, R1 SENSOR0_MIPI_DM3, R2 SENSOR0_MIPI_DP3, R3 SENSOR_SHSYNC, R4 SENSOR_SVSYNC, T1 SENSOR0_MIPI_DM2, T2 SENSOR0_MIPI_DP2, U1 SENSOR0_MIPI_CLKP, U2 SENSOR0_MIPI_CLKM, V1 SENSOR0_MIPI_DM1, V2 SENSOR0_MIPI_DP1, V5 REXT_MIPIS, W1 SENSOR0_MIPI_DP0, W2 SENSOR0_MIPI_DM0
part C pins: AA17 CKE, AB4 DQ31, AB5 DQ25, AB6 DQS3#, AB7 DQS3, AB10 A13, AB11 ODT, AB13 BA2, AB17 DQ6, AB18 DQ0, AB20 DQ4, AB21 DM0, AB23 DQ5, AC2 DQ27, AC3 DQ29, AC4 DM3, AC5 DQ24, AC6 DQ28, AC8 DQ30, AC9 DQ26, AC10 A3, AC11 A7, AC12 RAS#, AC13 A0, AC14 A10, AC15 A8, AC17 DQ2, AC19 DQS0, AC20 DQS0#, AC21 DQ1, AC22 DQ3, AC24 DQ7, AC25 RST#, AD3 DQ22, AD4 DQ16, AD5 DQS2, AD7 DQ17, AD8 DQ19, AD10 A5, AD11 A15, AD12 WE#, AD13 CLK, AD15 A12, AD16 A4, AD17 A14, AD18 DM1, AD19 DQ11, AD20 DQ15, AD23 DQS1#, AD24 DQ14, AD25 DQ10, AE2 DQ20, AE3 DQ18, AE5 DQS2#, AE6 DQ23, AE7 DM2, AE8 DQ21, AE9 A9, AE10 A2, AE11 BA0, AE13 CLK#, AE14 CAS#, AE15 BA1, AE16 A1, AE17 A11, AE18 A6, AE20 DQ13, AE21 DQ9, AE22 DQ8, AE23 DQS1, AE24 DQ12
part D pins: AA22 C_CONTORL, AA23 PMU_INT2, AA24 POWER_EN0, AA25 PMU_T_MODE, AB24 V_CONTORL, AB25 PMU_RSTN, V23 VDDIO33_AON, V24 PMU_XOUT, V25 PMU_XIN, W19 VDDIO11_AON, W21 AVDD, W24 PMU_RTC_O, W25 PMU_RTC_I, Y21 VDDIO15_AON, Y22 PMU_INT1, Y23 PMU_INT3, Y24 PMU_INT0, Y25 IR_DATA
part E pins: B15 CVBS1, B16 CVBS0, C4 SAR_KEY2, C8 IDAC_OUT, C14 CVBS2, D5 SAR_KEY1, D13 PADA_VCOM, D17 USB_OTG_ID, G24 USB_DP, G25 USB_DM, H25 XTAL_IN_MPLL, J24 TN, J25 TP, K24 RP, K25 RN, M24 MICINN, M25 MICINP, N24 MICBIAS, P22 AUDREF, P24 MICINN1, P25 MICINP1, R24 VOPL_LINE0, R25 VOPR_LINE0, T24 VOMR_LINE0, T25 VOML_LINE0
part F pins: A20 SD2_D7, A21 SD2_D1, A22 SD2_D4, A23 SD2_D5, A24 SD2_CLK, B20 SD2_D2, B21 SD2_D0, B22 SD2_D3, B23 SD2_D6, B24 SD2_CMD, B25 SD2_CD, C24 SD1_D2, C25 SD1_D3, D24 SD1_CMD, D25 SD1_CLK, E22 SD0_D2, E23 SD0_D3, E24 SD1_D0, E25 SD1_D1, F22 SD0_CMD, F23 SD0_CLK, F24 SD1_CD, G22 SD0_D1, G23 SD0_D0, H22 SD0_CD
part G pins: A17 SF_WP, A18 SF_CS, A19 SF_CLK, AA1 I2S_SDATA0, AA2 I2S_WS, AA3 PWM, AA4 RADAR_RXD, AB1 I2S_SDATA1, AB2 RD_POWER_EN, AC1 I2S_SCLK, AD1 I2S_MCLK, B17 SF_SI, B18 SF_HOLD, B19 SF_SO, C15 JTAG_TDI, C16 JTAG_TDO, C17 JTAG_TRSTN, C18 GPS_POWER_EN, C19 GPS_TXD, D4 FSOURCE, D15 JTAG_TMS, D16 JTAG_TCK, D18 GPS_RXD, W3 SPI_SI, W4 SPI_CS, W5 G_SEN_SCK, Y1 SPI_CLK, Y2 SPI_SO, Y3 UART_RX, Y4 UART_TX, Y5 G_SEN_SDA
part H pins: AA8 VDD11, AA10 DVDD_DDR, AA11 VDD11, AA13 VDD15, AA14 VDD15, AA18 VDD11, AA19 VDD11, AB8 VDD15, AB14 VDD15, AB22 VREF, AD2 VDD15, AD21 VDD15, C20 VDDIO33_SD2, D9 AVDD_MIPIM, D21 VDD11, D22 VDDIO33_SD1, E6 AVDD3P2_AUX_, E8 AVDD33_IDAC, E9 AVDD_MIPIM, E12 AVDD3P3_VIDEO, E14 VDDIO33, E15 VDDIO33, E16 VDDIO33_ARM, E17 VDD11_ARM, E20 VDD11, E21 VDD11, G3 VDDIO33, G4 VDDIO33, G5 VDDIO33, G16 VDD11_ARM, H23 VDDIO33, J4 VDD11, J5 VDD11, J21 VDD11_ARM, J22 VDDIO33_ARM, K5 VDD11, K21 AVDDLV_USB, K22 AVDD3P3_USB, L5 VDD11, L22 AVDD33_MPLL, M22 AVDD11_PLL, M23 AVDD33_PLL, N5 VDDIO33_SR, N21 VDDIO33, P5 VDDIO33_SR, P21 AVDD33_ETH, R5 VDD11, R21 VABB_DRV_AUDIO, U3 AVDD_MIPIS, U4 AVDD_MIPIS, U5 AVDD_MIPIS, U19 VDD11, U21 VDD11, V7 VDDIO33, V19 VDD11, W7 VDDIO33, W11 AVDD_PLL, W12 VDD15, W13 VDD15, W14 VDD15, W15 VDD11, W18 DVDD_DDR, W22 VDDIO33
part I pins: A1 VSS, A9 VSS, A15 AVSS_ADC, A16 AVSS_ADC, A25 VSS, B9 AGND, C5 VSS, C9 VSS, C10 AGND, C11 AGND, C12 AGND, C21 VSS, C22 VSS, C23 VSS, D3 VSS, D8 VSS, D10 AGND, D11 VSS, D12 VSS, D14 VSS, D19 VSS, D20 VSS, D23 VSS, E3 VSS, E4 VSS, E5 VSS, E7 VSS, E10 AGND, E11 VSS, E13 VSS, E18 VSS, E19 VSS, F4 VSS, F5 VSS, F21 VSS, F25 AVSS_USB, G7 VSS, G8 VSS, G9 VSS, G10 VSS, G11 VSS, G12 VSS, G13 VSS, G14 VSS, G15 VSS, G17 VSS, G18 VSS, G19 VSS, G21 VSS, H2 VSS, H4 VSS, H5 VSS, H6 VSS, H7 VSS, H8 VSS, H9 VSS, H10 VSS, H11 VSS, H12 VSS, H24 AVSS_USB, L21 AVSS_MPLL, M21 AVSS33_PLL, N25 GNDAUD_AUDIO, P23 GNDAUD_AUDIO, R23 GNDAUD_AUDIO, T3 AGND_MIPIS, T4 AGND_MIPIS, T5 AGND_MIPIS, T22 GNDAUD_AUDIO, T23 GNDAUD_AUDIO, V3 AGND_MIPIS, V4 AGND_MIPIS
part J pins: H13 VSS, H14 VSS, H15 VSS, H16 VSS, H17 VSS, H18 VSS, H19 VSS, H20 VSS, J7 VSS, J8 VSS, J9 VSS, J10 VSS, J11 VSS, J12 VSS, J13 VSS, J14 VSS, J15 VSS, J16 VSS, J17 VSS, J18 VSS, J19 VSS, J23 VSS, K7 VSS, K8 VSS, K9 VSS, K10 VSS, K11 VSS, K12 VSS, K13 VSS, K14 VSS, K15 VSS, K16 VSS, K17 VSS, K18 VSS, K19 VSS, K23 VSS, L7 VSS, L8 VSS, L9 VSS, L10 VSS, L11 VSS, L12 VSS, L13 VSS, L14 VSS, L15 VSS, L16 VSS, L17 VSS, L18 VSS, L19 VSS, L23 VSS, L24 VSS, L25 VSS, M5 VSS, M7 VSS, M8 VSS, M9 VSS, M10 VSS, M11 VSS, M12 VSS, M13 VSS, M14 VSS, M15 VSS, M16 VSS, M17 VSS, M18 VSS, M19 VSS, N4 VSS, N7 VSS, N8 VSS, N9 VSS, N10 VSS, N11 VSS
part K pins: N12 VSS, N13 VSS, N14 VSS, N15 VSS, N16 VSS, N17 VSS, N18 VSS, N19 VSS, N22 VSS, N23 VSS, P7 VSS, P8 VSS, P9 VSS, P10 VSS, P11 VSS, P12 VSS, P13 VSS, P14 VSS, P15 VSS, P16 VSS, P17 VSS, P18 VSS, P19 VSS, R7 VSS, R8 VSS, R9 VSS, R10 VSS, R11 VSS, R12 VSS, R13 VSS, R14 VSS, R15 VSS, R16 VSS, R17 VSS, R18 VSS, R19 VSS, R22 VSS, T7 VSS, T8 VSS, T9 VSS, T10 VSS, T11 VSS, T12 VSS, T13 VSS, T14 VSS, T15 VSS, T16 VSS, T17 VSS, T18 VSS, T19 VSS, T21 VSS, U7 VSS, U8 VSS, U9 VSS, U10 VSS, U11 VSS, U12 VSS, U13 VSS, U14 VSS, U15 VSS, U16 VSS, U17 VSS, U18 VSS, U22 VSS, U23 VSS, U24 VSS, U25 VSS, V8 VSS, V9 VSS, V10 VSS, V11 VSS, V12 VSS
part L pins: AA5 VSS, AA6 VSS, AA7 VSS, AA9 VSS, AA12 VSS, AA15 VSS, AA16 VSS, AA20 VSS, AA21 VSS, AB3 VSS, AB9 VSS, AB12 VSS, AB15 VSS, AB16 VSS, AB19 VSS, AC7 VSS, AC16 VSS, AC18 VSS, AC23 VSS, AD6 VSS, AD9 VSS, AD14 VSS, AD22 VSS, AE1 VSS, AE4 VSS, AE12 VSS, AE19 VSS, AE25 VSS, V13 VSS, V14 VSS, V15 VSS, V16 VSS, V17 VSS, V18 VSS, V21 VSS, V22 VSS, W8 VSS, W9 VSS, W10 VSS, W16 VSS, W17 VSS, W23 VSS

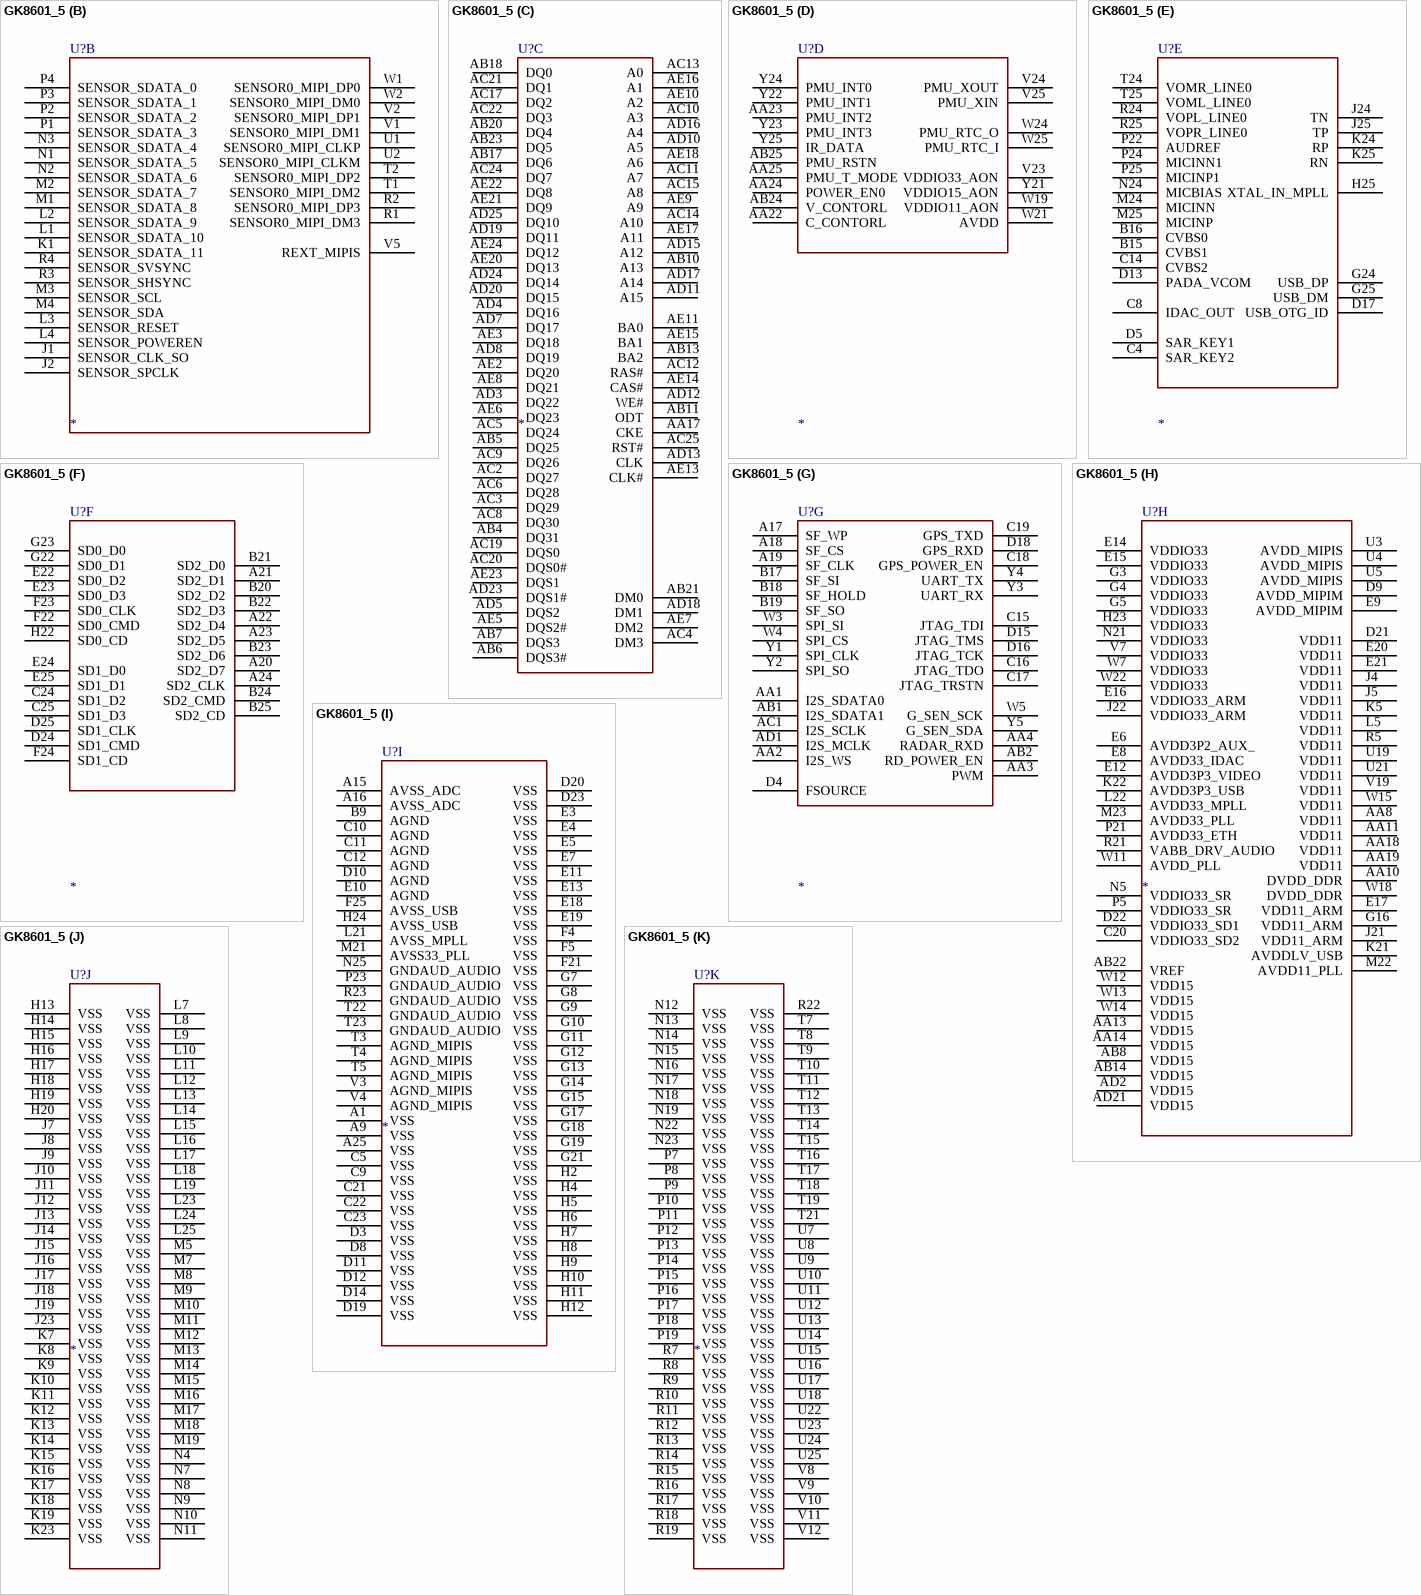
[diagram p10: symbol GK8601_5]

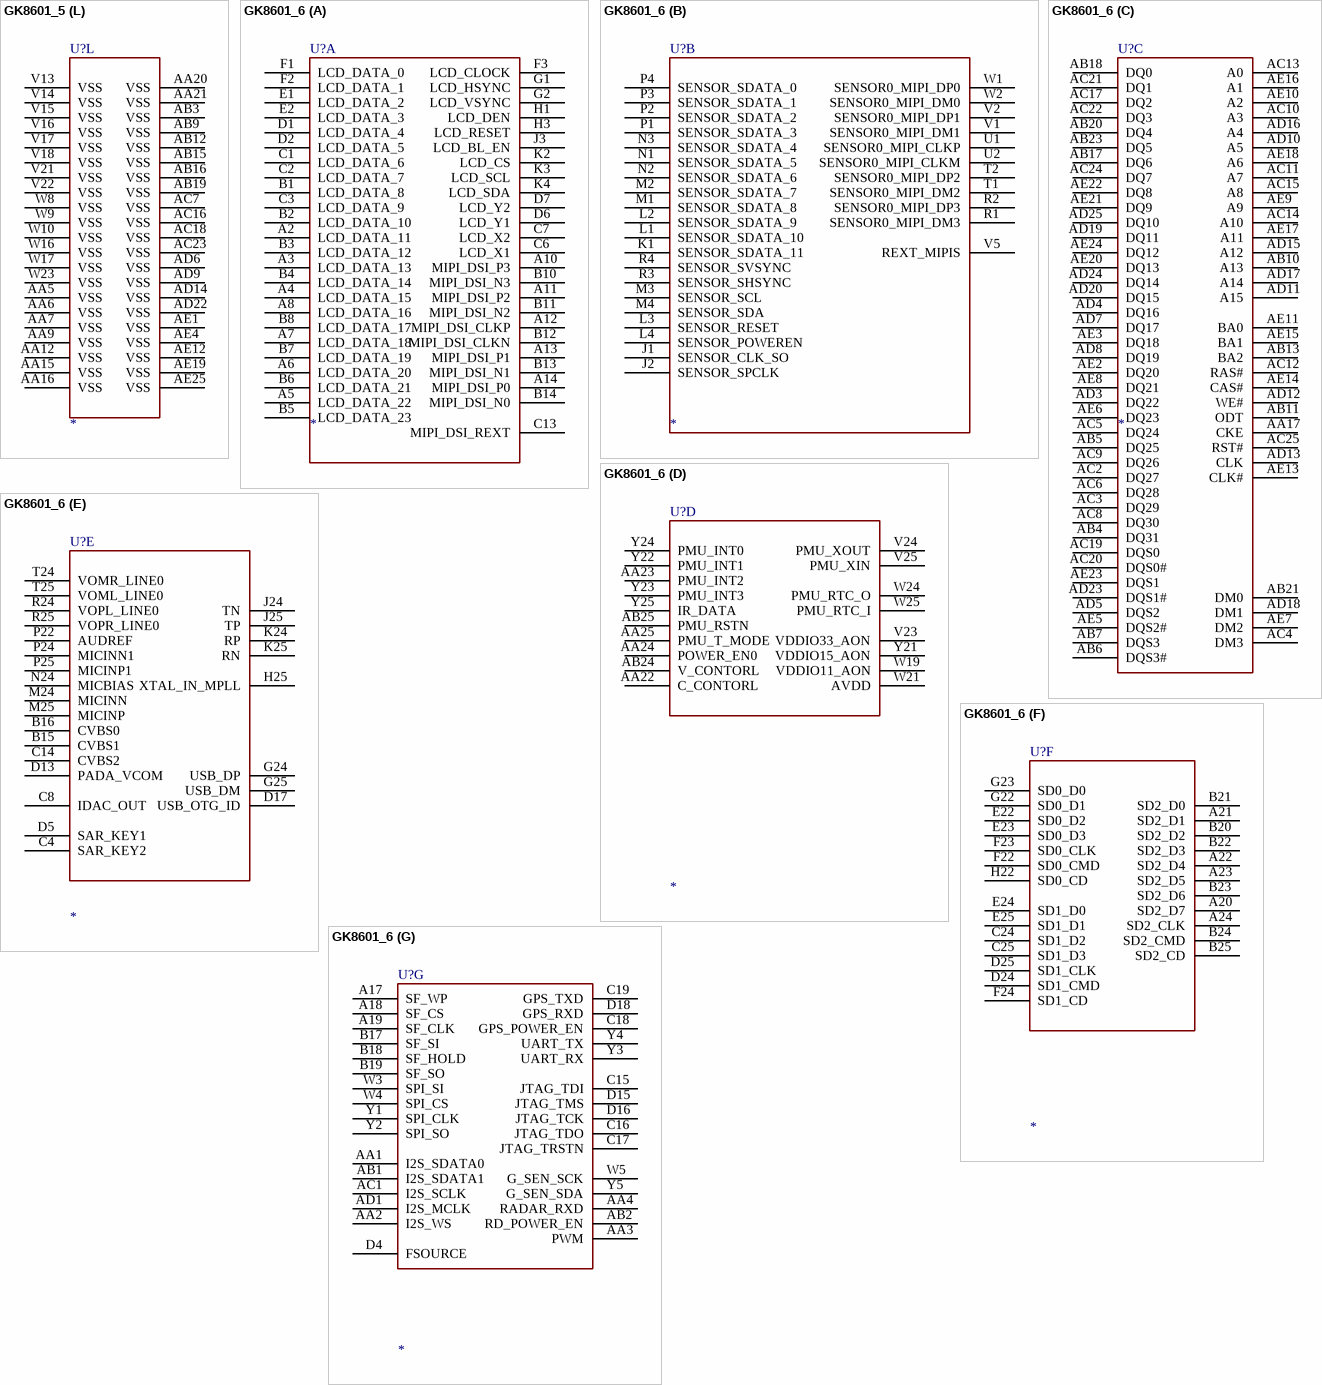
[diagram p11: symbols GK8601_5 to GK8601_6]